# Altium integrated library Lattice ECP2m FPGA.IntLib: 168 symbols (part 1 of 2)
Pins are listed as number, name and electrical type; pins without a type are passive.

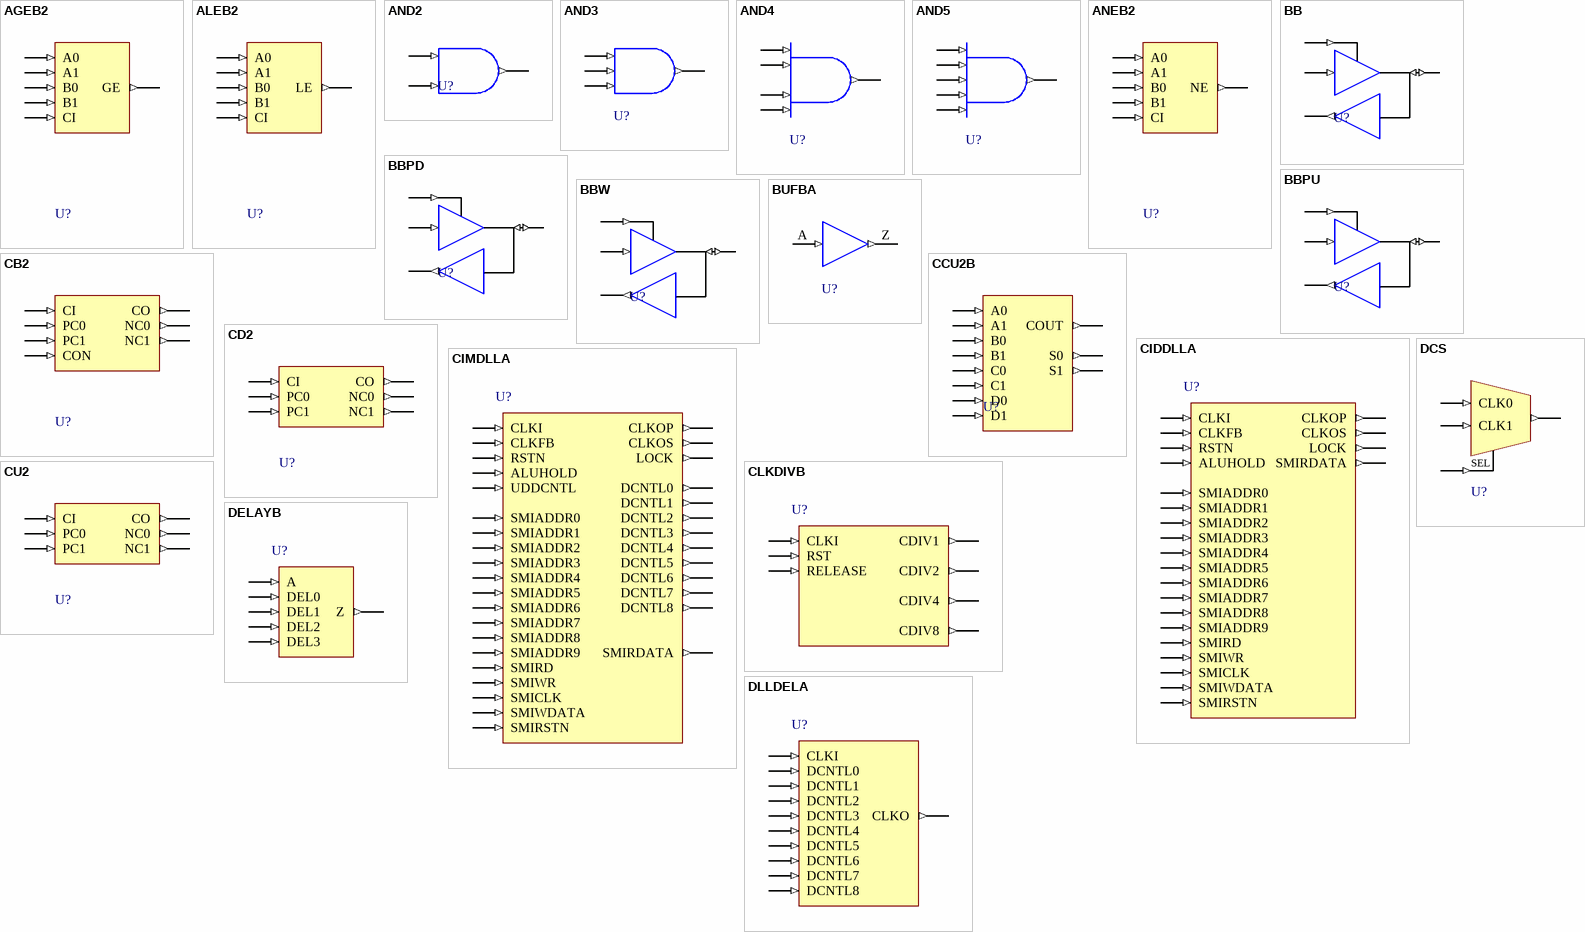
[diagram p0: symbols AGEB2 to DLLDELA]

## AGEB2
designator U?
"A" Greater Than Or Equal To "B" (2 Bit); FPGAVendor: Lattice; Published: 15-Jun-2005; Publisher: Altium Limited; HelpURL: http://www.latticesemi.com/lit/docs/manuals/library.pdf
pins: A0 (in), A1 (in), B0 (in), B1 (in), CI (in), GE (out)

## ALEB2
designator U?
"A” Less Than Or Equal To "B” (2 bit); FPGAVendor: Lattice; Published: 15-Jun-2005; Publisher: Altium Limited; HelpURL: http://www.latticesemi.com/lit/docs/manuals/library.pdf
pins: A0 (in), A1 (in), B0 (in), B1 (in), CI (in), LE (out)

## AND2
designator U?
2 Input AND Gate; FPGAVendor: Lattice; Published: 15-Jun-2005; Publisher: Altium Limited; HelpURL: http://www.latticesemi.com/lit/docs/manuals/library.pdf
pins: A (in), B (in), Z (out)

## AND3
designator U?
3 Input AND Gate; FPGAVendor: Lattice; Published: 15-Jun-2005; Publisher: Altium Limited; HelpURL: http://www.latticesemi.com/lit/docs/manuals/library.pdf
pins: A (in), B (in), C (in), Z (out)

## AND4
designator U?
4 Input AND Gate; FPGAVendor: Lattice; Published: 15-Jun-2005; Publisher: Altium Limited; HelpURL: http://www.latticesemi.com/lit/docs/manuals/library.pdf
pins: A (in), B (in), C (in), D (in), Z (out)

## AND5
designator U?
5 Input AND Gate; FPGAVendor: Lattice; Published: 15-Jun-2005; Publisher: Altium Limited; HelpURL: http://www.latticesemi.com/lit/docs/manuals/library.pdf
pins: A (in), B (in), C (in), D (in), E (in), Z (out)

## ANEB2
designator U?
"A” Not Equal To "B” (2 bit); FPGAVendor: Lattice; Published: 15-Jun-2005; Publisher: Altium Limited; HelpURL: http://www.latticesemi.com/lit/docs/manuals/library.pdf
pins: A0 (in), A1 (in), B0 (in), B1 (in), CI (in), NE (out)

## BB
designator U?
CMOS Input 6mA Sink 3mA Source Sinklim Output Buffer with Tristate – BiDirectional; FPGAVendor: Lattice; Published: 15-Jun-2005; Publisher: Altium Limited; HelpURL: http://www.latticesemi.com/lit/docs/manuals/library.pdf
pins: B (io), I (in), O (out), T (in)

## BBPD
designator U?
CMOS Input 6mA Sink 3mA Source Sinklim Output Buffer with Tristate and Pull-down – BiDirectional; FPGAVendor: Lattice; Published: 15-Jun-2005; Publisher: Altium Limited; HelpURL: http://www.latticesemi.com/lit/docs/manuals/library.pdf
pins: B (io), I (in), O (out), T (in)

## BBPU
designator U?
CMOS Input 6mA Sink 3mA Source Sinklim Output Buffer with Tristate and Pull-up – BiDirectional; FPGAVendor: Lattice; Published: 15-Jun-2005; Publisher: Altium Limited; HelpURL: http://www.latticesemi.com/lit/docs/manuals/library.pdf
pins: B (io), I (in), O (out), T (in)

## BBW
designator U?
CMOS Input 6mA Sink 3mA Source Sinklim Output Buffer with Tristate – BiDirectional in keepermode; FPGAVendor: Lattice; Published: 15-Jun-2005; Publisher: Altium Limited; HelpURL: http://www.latticesemi.com/lit/docs/manuals/library.pdf
pins: B (io), I (in), O (out), T (in)

## BUFBA
designator U?
Buffer; FPGAVendor: Lattice; Published: 14-Mar-2007; Publisher: Altium Limited
pins: A (in), Z (out)

## CB2
designator U?
LatticeXP based counter; Published: 15-Jun-2005; Publisher: Altium Limited; FPGAVendor: Lattice; HelpURL: http://www.latticesemi.com/lit/docs/manuals/library.pdf
pins: CI (in), CO (out), CON (in), NC0 (out), NC1 (out), PC0 (in), PC1 (in)

## CCU2B
designator U?
Description not found; FPGAVendor: Lattice; Published: 14-Mar-2007; Publisher: Altium Limited
pins: A0 (in), A1 (in), B0 (in), B1 (in), C0 (in), C1 (in), COUT (out), D0 (in), D1 (in), S0 (out), S1 (out)

## CD2
designator U?
Combinational Logic for 2 Bit Down Counter using Look-Up Table; FPGAVendor: Lattice; Published: 15-Jun-2005; Publisher: Altium Limited; HelpURL: http://www.latticesemi.com/lit/docs/manuals/library.pdf
pins: CI (in), CO (out), NC0 (out), NC1 (out), PC0 (in), PC1 (in)

## CIDDLLA
designator U?
Description not found; FPGAVendor: Lattice; Published: 14-Mar-2007; Publisher: Altium Limited
pins: ALUHOLD (in), CLKFB (in), CLKI (in), CLKOP (out), CLKOS (out), LOCK (out), RSTN (in), SMIADDR0 (in), SMIADDR1 (in), SMIADDR2 (in), SMIADDR3 (in), SMIADDR4 (in), SMIADDR5 (in), SMIADDR6 (in), SMIADDR7 (in), SMIADDR8 (in), SMIADDR9 (in), SMICLK (in), SMIRD (in), SMIRDATA (out), SMIRSTN (in), SMIWDATA (in), SMIWR (in)

## CIMDLLA
designator U?
Description not found; FPGAVendor: Lattice; Published: 14-Mar-2007; Publisher: Altium Limited
pins: ALUHOLD (in), CLKFB (in), CLKI (in), CLKOP (out), CLKOS (out), DCNTL0 (out), DCNTL1 (out), DCNTL2 (out), DCNTL3 (out), DCNTL4 (out), DCNTL5 (out), DCNTL6 (out), DCNTL7 (out), DCNTL8 (out), LOCK (out), RSTN (in), SMIADDR0 (in), SMIADDR1 (in), SMIADDR2 (in), SMIADDR3 (in), SMIADDR4 (in), SMIADDR5 (in), SMIADDR6 (in), SMIADDR7 (in), SMIADDR8 (in), SMIADDR9 (in), SMICLK (in), SMIRD (in), SMIRDATA (out), SMIRSTN (in), SMIWDATA (in), SMIWR (in), UDDCNTL (in)

## CLKDIVB
designator U?
Description not found; FPGAVendor: Lattice; Published: 14-Mar-2007; Publisher: Altium Limited
pins: CDIV1 (out), CDIV2 (out), CDIV4 (out), CDIV5 CDIV8 (out), CLKI (in), RELEASE (in), RST (in)

## CU2
designator U?
Combinational Logic for 2 Bit Up Counter using Look-Up Table; FPGAVendor: Lattice; Published: 15-Jun-2005; Publisher: Altium Limited; HelpURL: http://www.latticesemi.com/lit/docs/manuals/library.pdf
pins: CI (in), CO (out), NC0 (out), NC1 (out), PC0 (in), PC1 (in)

## DCS
designator U?
Dynamic Clock Selection Multiplexer; FPGAVendor: Lattice; Published: 15-Jun-2005; Publisher: Altium Limited; HelpURL: http://www.latticesemi.com/lit/docs/manuals/library.pdf
pins: CLK0 (in), CLK1 (in), DCSOUT (out), SEL (in)

## DELAYB
designator U?
Description not found; FPGAVendor: Lattice; Published: 14-Mar-2007; Publisher: Altium Limited
pins: A (in), DEL0 (in), DEL1 (in), DEL2 (in), DEL3 (in), Z (out)

## DLLDELA
designator U?
Description not found; FPGAVendor: Lattice; Published: 14-Mar-2007; Publisher: Altium Limited
pins: CLKI (in), CLKO (out), DCNTL0 (in), DCNTL1 (in), DCNTL2 (in), DCNTL3 (in), DCNTL4 (in), DCNTL5 (in), DCNTL6 (in), DCNTL7 (in), DCNTL8 (in)

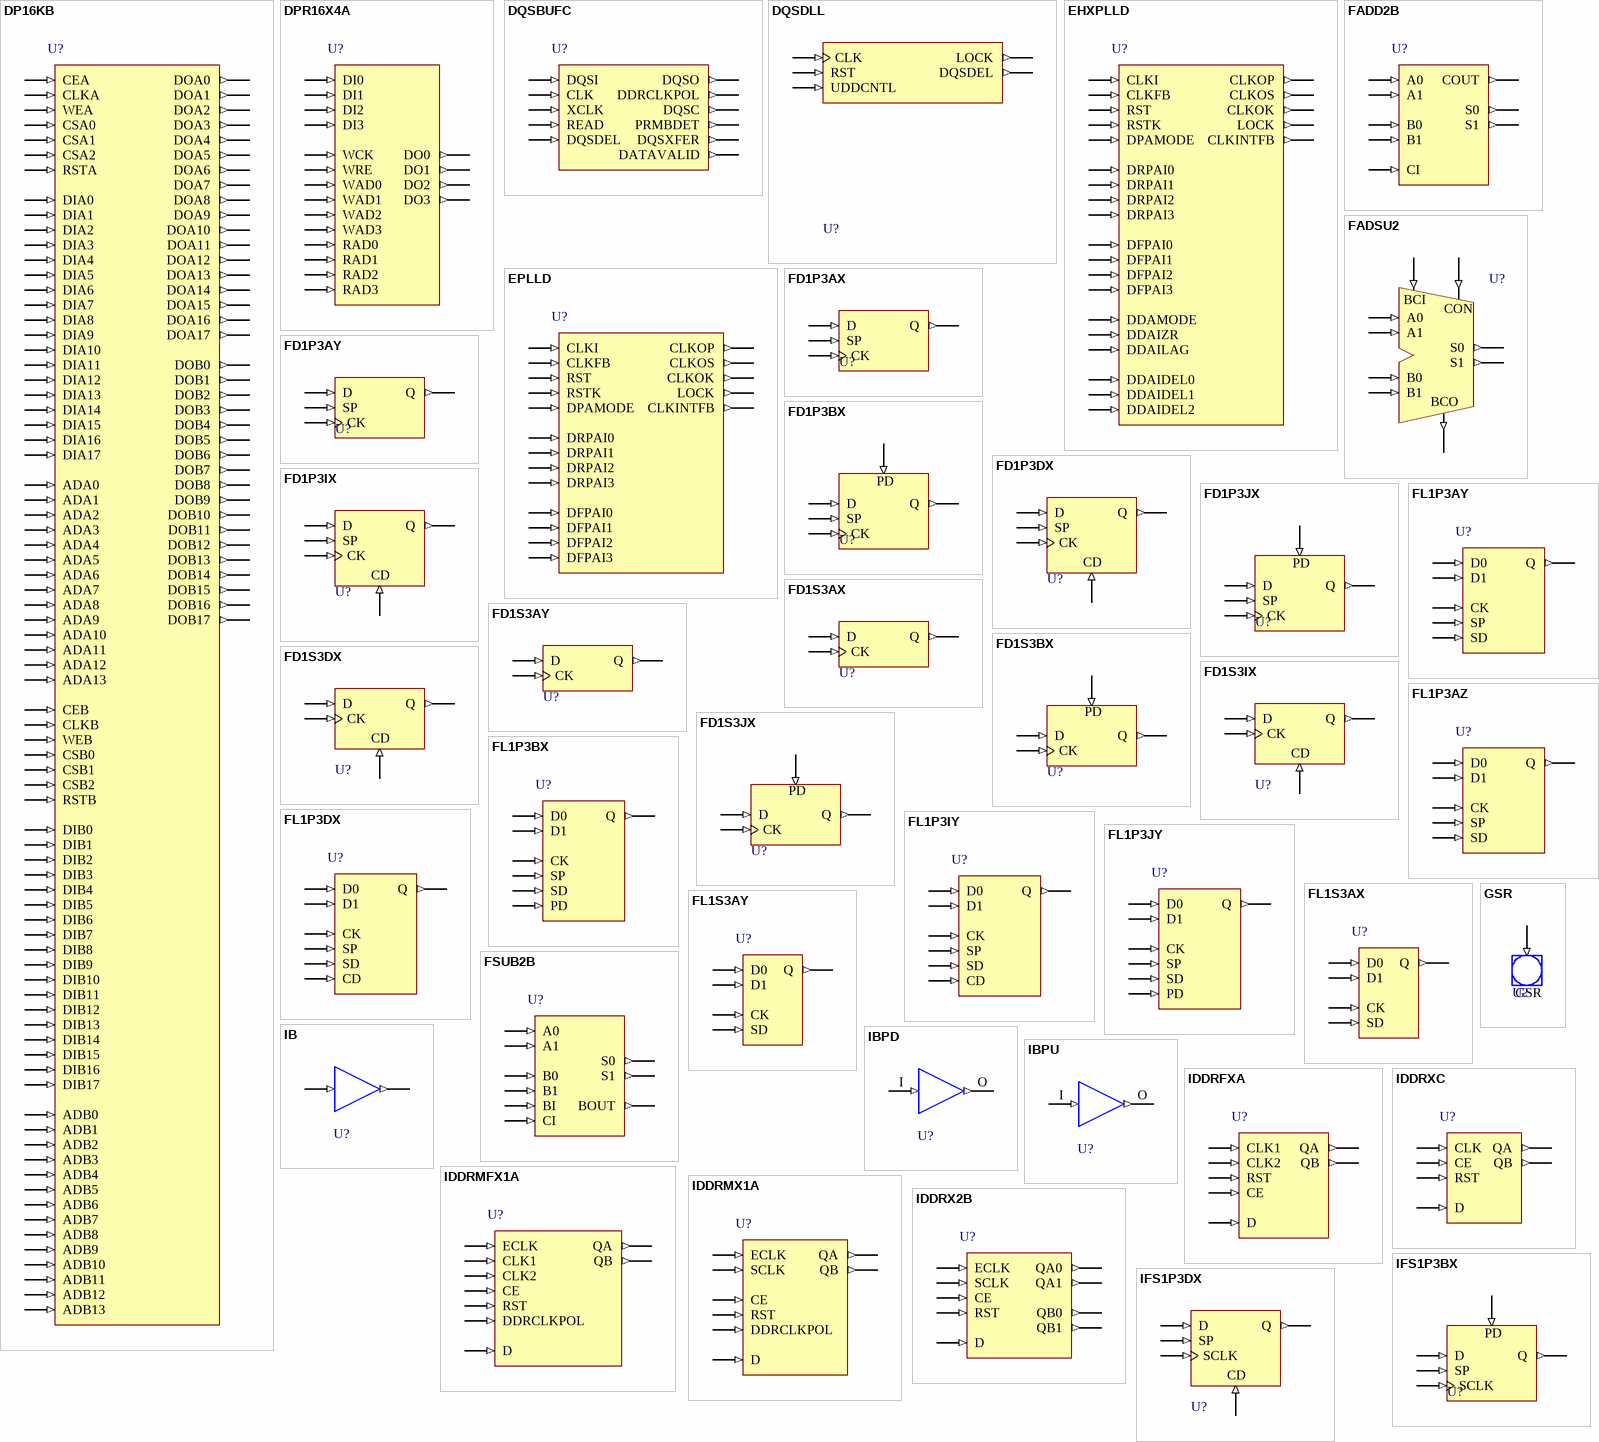
[diagram p1: symbols DP16KB to IFS1P3DX]

## DP16KB
designator U?
Description not found; FPGAVendor: Lattice; Published: 14-Mar-2007; Publisher: Altium Limited
pins: ADA0 (in), ADA1 (in), ADA2 (in), ADA3 (in), ADA4 (in), ADA5 (in), ADA6 (in), ADA7 (in), ADA8 (in), ADA9 (in), ADA10 (in), ADA11 (in), ADA12 (in), ADA13 (in), ADB0 (in), ADB1 (in), ADB2 (in), ADB3 (in), ADB4 (in), ADB5 (in), ADB6 (in), ADB7 (in), ADB8 (in), ADB9 (in), ADB10 (in), ADB11 (in), ADB12 (in), ADB13 (in), CEA (in), CEB (in), CLKA (in), CLKB (in), CSA0 (in), CSA1 (in), CSA2 (in), CSB0 (in), CSB1 (in), CSB2 (in), DIA0 (in), DIA1 (in), DIA2 (in), DIA3 (in), DIA4 (in), DIA5 (in), DIA6 (in), DIA7 (in), DIA8 (in), DIA9 (in), DIA10 (in), DIA11 (in), DIA12 (in), DIA13 (in), DIA14 (in), DIA15 (in), DIA16 (in), DIA17 (in), DIB0 (in), DIB1 (in), DIB2 (in), DIB3 (in), DIB4 (in), DIB5 (in), DIB6 (in), DIB7 (in), DIB8 (in), DIB9 (in), DIB10 (in), DIB11 (in), DIB12 (in), DIB13 (in), DIB14 (in), DIB15 (in), DIB16 (in), DIB17 (in), DOA0 (out), DOA1 (out), DOA2 (out), DOA3 (out), DOA4 (out), DOA5 (out), DOA6 (out), DOA7 (out), DOA8 (out), DOA9 (out), DOA10 (out), DOA11 (out), DOA12 (out), DOA13 (out), DOA14 (out), DOA15 (out), DOA16 (out), DOA17 (out), DOB0 (out), DOB1 (out), DOB2 (out), DOB3 (out), DOB4 (out), DOB5 (out), DOB6 (out), DOB7 (out), DOB8 (out), DOB9 (out), DOB10 (out), DOB11 (out), DOB12 (out), DOB13 (out), DOB14 (out), DOB15 (out), DOB16 (out), DOB17 (out), RSTA (in), RSTB (in), WEA (in), WEB (in)

## DPR16X4A
designator U?
Description not found; FPGAVendor: Lattice; Published: 14-Mar-2007; Publisher: Altium Limited
pins: DI0 (in), DI1 (in), DI2 (in), DI3 (in), DO0 (out), DO1 (out), DO2 (out), DO3 (out), RAD0 (in), RAD1 (in), RAD2 (in), RAD3 (in), WAD0 (in), WAD1 (in), WAD2 (in), WAD3 (in), WCK (in), WRE (in)

## DQSBUFC
designator U?
Description not found; FPGAVendor: Lattice; Published: 14-Mar-2007; Publisher: Altium Limited
pins: CLK (in), DATAVALID (out), DDRCLKPOL (out), DQSC (out), DQSDEL (in), DQSI (in), DQSO (out), DQSXFER (out), PRMBDET (out), READ (in), XCLK (in)

## DQSDLL
designator U?
DLL used as DDR memory DQS DLL; FPGAVendor: Lattice; Published: 15-Jun-2005; Publisher: Altium Limited; HelpURL: http://www.latticesemi.com/lit/docs/manuals/library.pdf
pins: CLK (in), DQSDEL (out), LOCK (out), RST (in), UDDCNTL (in)

## EHXPLLD
designator U?
Description not found; FPGAVendor: Lattice; Published: 14-Mar-2007; Publisher: Altium Limited
pins: CLKFB (in), CLKI (in), CLKINTFB (out), CLKOK (out), CLKOP (out), CLKOS (out), DDAIDEL0 (in), DDAIDEL1 (in), DDAIDEL2 (in), DDAILAG (in), DDAIZR (in), DDAMODE (in), DFPAI0 (in), DFPAI1 (in), DFPAI2 (in), DFPAI3 (in), DPAMODE (in), DRPAI0 (in), DRPAI1 (in), DRPAI2 (in), DRPAI3 (in), LOCK (out), RST (in), RSTK (in)

## EPLLD
designator U?
Description not found; FPGAVendor: Lattice; Published: 14-Mar-2007; Publisher: Altium Limited
pins: CLKFB (in), CLKI (in), CLKINTFB (out), CLKOK (out), CLKOP (out), CLKOS (out), DFPAI0 (in), DFPAI1 (in), DFPAI2 (in), DFPAI3 (in), DPAMODE (in), DRPAI0 (in), DRPAI1 (in), DRPAI2 (in), DRPAI3 (in), LOCK (out), RST (in), RSTK (in)

## FADD2B
designator U?
Description not found; FPGAVendor: Lattice; Published: 14-Mar-2007; Publisher: Altium Limited
pins: A0 (in), A1 (in), B0 (in), B1 (in), CI (in), COUT (out), S0 (out), S1 (out)

## FADSU2
designator U?
2 Bit Fast Adder/Subtracter (two’s complement); FPGAVendor: Lattice; Published: 15-Jun-2005; Publisher: Altium Limited; HelpURL: http://www.latticesemi.com/lit/docs/manuals/library.pdf
pins: A0 (in), A1 (in), B0 (in), B1 (in), BCI (in), BCO (out), CON (in), S0 (out), S1 (out)

## FD1P3AX
designator U?
Positive Edge Triggered D Flip-Flop with Positive Level Enable, GSR used for Clear; FPGAVendor: Lattice; Published: 15-Jun-2005; Publisher: Altium Limited; HelpURL: http://www.latticesemi.com/lit/docs/manuals/library.pdf
pins: CK (in), D (in), Q (out), SP (in)

## FD1P3AY
designator U?
Positive Edge Triggered D Flip-Flop with Positive Level Enable, GSR used for Preset; FPGAVendor: Lattice; Published: 15-Jun-2005; Publisher: Altium Limited; HelpURL: http://www.latticesemi.com/lit/docs/manuals/library.pdf
pins: CK (in), D (in), Q (out), SP (in)

## FD1P3BX
designator U?
Positive Edge Triggered D Flip-Flop with Positive Level Enable and Positive Level Asynchronous Preset; FPGAVendor: Lattice; Published: 15-Jun-2005; Publisher: Altium Limited; HelpURL: http://www.latticesemi.com/lit/docs/manuals/library.pdf
pins: CK (in), D (in), PD (in), Q (out), SP (in)

## FD1P3DX
designator U?
Positive Edge Triggered D Flip-Flop with Positive Level Enable and Positive Level Asynchronous Clear; FPGAVendor: Lattice; Published: 15-Jun-2005; Publisher: Altium Limited; HelpURL: http://www.latticesemi.com/lit/docs/manuals/library.pdf
pins: CD (in), CK (in), D (in), Q (out), SP (in)

## FD1P3IX
designator U?
Positive Edge Triggered D Flip-Flop with Positive Level Synchronous Clear and Positive Level Enable (Clear overrides Enable); FPGAVendor: Lattice; Published: 15-Jun-2005; Publisher: Altium Limited; HelpURL: http://www.latticesemi.com/lit/docs/manuals/library.pdf
pins: CD (in), CK (in), D (in), Q (out), SP (in)

## FD1P3JX
designator U?
Positive Edge Triggered D Flip-Flop with Positive Level Synchronous Preset and Positive Level Enable (Preset overrides Enable); FPGAVendor: Lattice; Published: 15-Jun-2005; Publisher: Altium Limited; HelpURL: http://www.latticesemi.com/lit/docs/manuals/library.pdf
pins: CK (in), D (in), PD (in), Q (out), SP (in)

## FD1S3AX
designator U?
Positive Edge Triggered D Flip-Flop, GSR Used for Clear; FPGAVendor: Lattice; Published: 15-Jun-2005; Publisher: Altium Limited; HelpURL: http://www.latticesemi.com/lit/docs/manuals/library.pdf
pins: CK (in), D (in), Q (out)

## FD1S3AY
designator U?
Positive Edge Triggered D Flip-Flop, GSR Used for Preset; FPGAVendor: Lattice; Published: 15-Jun-2005; Publisher: Altium Limited; HelpURL: http://www.latticesemi.com/lit/docs/manuals/library.pdf
pins: CK (in), D (in), Q (out)

## FD1S3BX
designator U?
Positive Edge Triggered D Flip-Flop with Positive Level Asynchronous Preset; FPGAVendor: Lattice; Published: 15-Jun-2005; Publisher: Altium Limited; HelpURL: http://www.latticesemi.com/lit/docs/manuals/library.pdf
pins: CK (in), D (in), PD (in), Q (out)

## FD1S3DX
designator U?
Positive Edge Triggered D Flip-Flop with Positive Level Asynchronous Clear; FPGAVendor: Lattice; Published: 15-Jun-2005; Publisher: Altium Limited; HelpURL: http://www.latticesemi.com/lit/docs/manuals/library.pdf
pins: CD (in), CK (in), D (in), Q (out)

## FD1S3IX
designator U?
Positive Edge Triggered D Flip-Flop with Positive Level Synchronous Clear; FPGAVendor: Lattice; Published: 15-Jun-2005; Publisher: Altium Limited; HelpURL: http://www.latticesemi.com/lit/docs/manuals/library.pdf
pins: CD (in), CK (in), D (in), Q (out)

## FD1S3JX
designator U?
Positive Edge Triggered D Flip-Flop with Positive Level Synchronous Preset; FPGAVendor: Lattice; Published: 15-Jun-2005; Publisher: Altium Limited; HelpURL: http://www.latticesemi.com/lit/docs/manuals/library.pdf
pins: CK (in), D (in), PD (in), Q (out)

## FL1P3AY
designator U?
Description not found; FPGAVendor: Lattice; Published: 14-Mar-2007; Publisher: Altium Limited
pins: CK (in), D0 (in), D1 (in), Q (out), SD (in), SP (in)

## FL1P3AZ
designator U?
Description not found; FPGAVendor: Lattice; Published: 14-Mar-2007; Publisher: Altium Limited
pins: CK (in), D0 (in), D1 (in), Q (out), SD (in), SP (in)

## FL1P3BX
designator U?
Description not found; FPGAVendor: Lattice; Published: 14-Mar-2007; Publisher: Altium Limited
pins: CK (in), D0 (in), D1 (in), PD (in), Q (out), SD (in), SP (in)

## FL1P3DX
designator U?
Description not found; FPGAVendor: Lattice; Published: 14-Mar-2007; Publisher: Altium Limited
pins: CD (in), CK (in), D0 (in), D1 (in), Q (out), SD (in), SP (in)

## FL1P3IY
designator U?
Description not found; FPGAVendor: Lattice; Published: 14-Mar-2007; Publisher: Altium Limited
pins: CD (in), CK (in), D0 (in), D1 (in), Q (out), SD (in), SP (in)

## FL1P3JY
designator U?
Description not found; FPGAVendor: Lattice; Published: 14-Mar-2007; Publisher: Altium Limited
pins: CK (in), D0 (in), D1 (in), PD (in), Q (out), SD (in), SP (in)

## FL1S3AX
designator U?
Description not found; FPGAVendor: Lattice; Published: 14-Mar-2007; Publisher: Altium Limited
pins: CK (in), D0 (in), D1 (in), Q (out), SD (in)

## FL1S3AY
designator U?
Description not found; FPGAVendor: Lattice; Published: 14-Mar-2007; Publisher: Altium Limited
pins: CK (in), D0 (in), D1 (in), Q (out), SD (in)

## FSUB2B
designator U?
Description not found; FPGAVendor: Lattice; Published: 14-Mar-2007; Publisher: Altium Limited
pins: A0 (in), A1 (in), B0 (in), B1 (in), BI (in), BOUT (out), CI (in), S0 (out), S1 (out)

## GSR
designator U?
Global Set/Reset; FPGAVendor: Lattice; Published: 15-Jun-2005; Publisher: Altium Limited; HelpURL: http://www.latticesemi.com/lit/docs/manuals/library.pdf
pins: GSR (in)

## IB
designator U?
CMOS Input Buffer; FPGAVendor: Lattice; Published: 15-Jun-2005; Publisher: Altium Limited; HelpURL: http://www.latticesemi.com/lit/docs/manuals/library.pdf
pins: I (in), O (out)

## IBPD
designator U?
Description not found; FPGAVendor: Lattice; Published: 14-Mar-2007; Publisher: Altium Limited
pins: I (in), O (out)

## IBPU
designator U?
Description not found; FPGAVendor: Lattice; Published: 14-Mar-2007; Publisher: Altium Limited
pins: I (in), O (out)

## IDDRFXA
designator U?
Description not found; FPGAVendor: Lattice; Published: 14-Mar-2007; Publisher: Altium Limited
pins: CE (in), CLK1 (in), CLK2 (in), D (in), QA (out), QB (out), RST (in)

## IDDRMFX1A
designator U?
Description not found; FPGAVendor: Lattice; Published: 14-Mar-2007; Publisher: Altium Limited
pins: CE (in), CLK1 (in), CLK2 (in), D (in), DDRCLKPOL (in), ECLK (in), QA (out), QB (out), RST (in)

## IDDRMX1A
designator U?
Description not found; FPGAVendor: Lattice; Published: 14-Mar-2007; Publisher: Altium Limited
pins: CE (in), D (in), DDRCLKPOL (in), ECLK (in), QA (out), QB (out), RST (in), SCLK (in)

## IDDRX2B
designator U?
Description not found; FPGAVendor: Lattice; Published: 14-Mar-2007; Publisher: Altium Limited
pins: CE (in), D (in), ECLK (in), QA0 (out), QA1 (out), QB0 (out), QB1 (out), RST (in), SCLK (in)

## IDDRXC
designator U?
Description not found; FPGAVendor: Lattice; Published: 14-Mar-2007; Publisher: Altium Limited
pins: CE (in), CLK (in), D (in), QA (out), QB (out), RST (in)

## IFS1P3BX
designator U?
Positive Edge Triggered D Flip-Flop with Positive Level Enable, Positive Level Asynchronous Preset, and System Clock (used in input PIC area only); FPGAVendor: Lattice; Published: 15-Jun-2005; Publisher: Altium Limited; HelpURL: http://www.latticesemi.com/lit/docs/manuals/library.pdf
pins: D (in), PD (in), Q (out), SCLK (in), SP (in)

## IFS1P3DX
designator U?
Positive Edge Triggered D Flip-Flop with Positive Level Enable, Positive Level Asynchronous Clear, and System Clock (used in input PIC area only); FPGAVendor: Lattice; Published: 15-Jun-2005; Publisher: Altium Limited; HelpURL: http://www.latticesemi.com/lit/docs/manuals/library.pdf
pins: CD (in), D (in), Q (out), SCLK (in), SP (in)

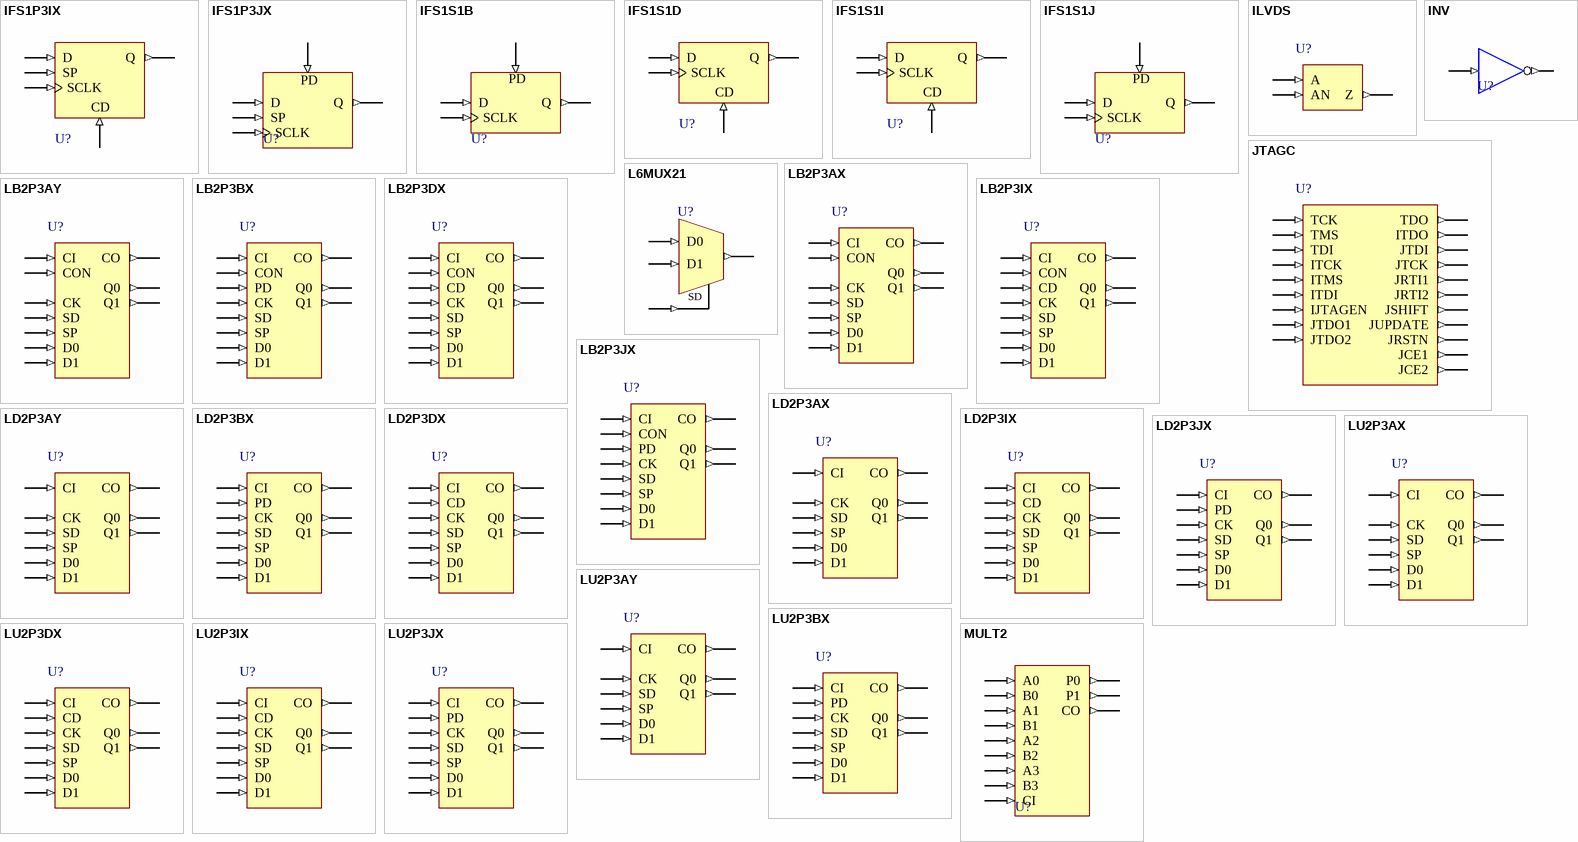
[diagram p2: symbols IFS1P3IX to MULT2]

## IFS1P3IX
designator U?
Positive Edge Triggered D Flip-Flop with Positive Level Synchronous Clear, Positive Level Enable, and System Clock (Clear overrides Enable) (used in input PIC area only); FPGAVendor: Lattice; Published: 15-Jun-2005; Publisher: Altium Limited; HelpURL: http://www.latticesemi.com/lit/docs/manuals/library.pdf
pins: CD (in), D (in), Q (out), SCLK (in), SP (in)

## IFS1P3JX
designator U?
Positive Edge Triggered D Flip-Flop with Positive Level Synchronous Preset, Positive Level Enable, and System Clock (Preset overrides Enable) (used in input PIC area only); FPGAVendor: Lattice; Published: 15-Jun-2005; Publisher: Altium Limited; HelpURL: http://www.latticesemi.com/lit/docs/manuals/library.pdf
pins: D (in), PD (in), Q (out), SCLK (in), SP (in)

## IFS1S1B
designator U?
Positive Level Data Latch with Positive Level Asynchronous Preset and System Clock (used in input PIC area only); FPGAVendor: Lattice; Published: 15-Jun-2005; Publisher: Altium Limited; HelpURL: http://www.latticesemi.com/lit/docs/manuals/library.pdf
pins: D (in), PD (in), Q (out), SCLK (in)

## IFS1S1D
designator U?
Positive Level Data Latch with Positive Level Asynchronous Clear and System Clock (used in input PIC area only); FPGAVendor: Lattice; Published: 15-Jun-2005; Publisher: Altium Limited; HelpURL: http://www.latticesemi.com/lit/docs/manuals/library.pdf
pins: CD (in), D (in), Q (out), SCLK (in)

## IFS1S1I
designator U?
Positive Level Data Latch with Positive Level Synchronous Clear and System Clock (used in input PIC area only); FPGAVendor: Lattice; Published: 15-Jun-2005; Publisher: Altium Limited; HelpURL: http://www.latticesemi.com/lit/docs/manuals/library.pdf
pins: CD (in), D (in), Q (out), SCLK (in)

## IFS1S1J
designator U?
Positive Level Data Latch with Positive Level Synchronous Preset and System Clock (used in input PIC area only); FPGAVendor: Lattice; Published: 15-Jun-2005; Publisher: Altium Limited; HelpURL: http://www.latticesemi.com/lit/docs/manuals/library.pdf
pins: D (in), PD (in), Q (out), SCLK (in)

## ILVDS
designator U?
Description not found; FPGAVendor: Lattice; Published: 14-Mar-2007; Publisher: Altium Limited
pins: A (in), AN (in), Z (out)

## INV
designator U?
Inverter; FPGAVendor: Lattice; Published: 15-Jun-2005; Publisher: Altium Limited; HelpURL: http://www.latticesemi.com/lit/docs/manuals/library.pdf
pins: A (in), Z (out)

## JTAGC
designator U?
Description not found; FPGAVendor: Lattice; Published: 14-Mar-2007; Publisher: Altium Limited
pins: IJTAGEN (in), ITCK (in), ITDI (in), ITDO (out), ITMS (in), JCE1 (out), JCE2 (out), JRSTN (out), JRTI1 (out), JRTI2 (out), JSHIFT (out), JTCK (out), JTDI (out), JTDO1 (in), JTDO2 (in), JUPDATE (out), TCK (in), TDI (in), TDO (out), TMS (in)

## L6MUX21
designator U?
2 to 1 Mux; FPGAVendor: Lattice; Published: 15-Jun-2005; Publisher: Altium Limited; HelpURL: http://www.latticesemi.com/lit/docs/manuals/library.pdf
pins: D0 (in), D1 (in), SD (in), Z (out)

## LB2P3AX
designator U?
Description not found; FPGAVendor: Lattice; Published: 14-Mar-2007; Publisher: Altium Limited
pins: CI (in), CK (in), CO (out), CON (in), D0 (in), D1 (in), Q0 (out), Q1 (out), SD (in), SP (in)

## LB2P3AY
designator U?
Description not found; FPGAVendor: Lattice; Published: 14-Mar-2007; Publisher: Altium Limited
pins: CI (in), CK (in), CO (out), CON (in), D0 (in), D1 (in), Q0 (out), Q1 (out), SD (in), SP (in)

## LB2P3BX
designator U?
Description not found; FPGAVendor: Lattice; Published: 14-Mar-2007; Publisher: Altium Limited
pins: CI (in), CK (in), CO (out), CON (in), D0 (in), D1 (in), PD (in), Q0 (out), Q1 (out), SD (in), SP (in)

## LB2P3DX
designator U?
Description not found; FPGAVendor: Lattice; Published: 14-Mar-2007; Publisher: Altium Limited
pins: CD (in), CI (in), CK (in), CO (out), CON (in), D0 (in), D1 (in), Q0 (out), Q1 (out), SD (in), SP (in)

## LB2P3IX
designator U?
Description not found; FPGAVendor: Lattice; Published: 14-Mar-2007; Publisher: Altium Limited
pins: CD (in), CI (in), CK (in), CO (out), CON (in), D0 (in), D1 (in), Q0 (out), Q1 (out), SD (in), SP (in)

## LB2P3JX
designator U?
Description not found; FPGAVendor: Lattice; Published: 14-Mar-2007; Publisher: Altium Limited
pins: CI (in), CK (in), CO (out), CON (in), D0 (in), D1 (in), PD (in), Q0 (out), Q1 (out), SD (in), SP (in)

## LD2P3AX
designator U?
Description not found; FPGAVendor: Lattice; Published: 14-Mar-2007; Publisher: Altium Limited
pins: CI (in), CK (in), CO (out), D0 (in), D1 (in), Q0 (out), Q1 (out), SD (in), SP (in)

## LD2P3AY
designator U?
Description not found; FPGAVendor: Lattice; Published: 14-Mar-2007; Publisher: Altium Limited
pins: CI (in), CK (in), CO (out), D0 (in), D1 (in), Q0 (out), Q1 (out), SD (in), SP (in)

## LD2P3BX
designator U?
Description not found; FPGAVendor: Lattice; Published: 14-Mar-2007; Publisher: Altium Limited
pins: CI (in), CK (in), CO (out), D0 (in), D1 (in), PD (in), Q0 (out), Q1 (out), SD (in), SP (in)

## LD2P3DX
designator U?
Description not found; FPGAVendor: Lattice; Published: 14-Mar-2007; Publisher: Altium Limited
pins: CD (in), CI (in), CK (in), CO (out), D0 (in), D1 (in), Q0 (out), Q1 (out), SD (in), SP (in)

## LD2P3IX
designator U?
Description not found; FPGAVendor: Lattice; Published: 14-Mar-2007; Publisher: Altium Limited
pins: CD (in), CI (in), CK (in), CO (out), D0 (in), D1 (in), Q0 (out), Q1 (out), SD (in), SP (in)

## LD2P3JX
designator U?
Description not found; FPGAVendor: Lattice; Published: 14-Mar-2007; Publisher: Altium Limited
pins: CI (in), CK (in), CO (out), D0 (in), D1 (in), PD (in), Q0 (out), Q1 (out), SD (in), SP (in)

## LU2P3AX
designator U?
Description not found; FPGAVendor: Lattice; Published: 14-Mar-2007; Publisher: Altium Limited
pins: CI (in), CK (in), CO (out), D0 (in), D1 (in), Q0 (out), Q1 (out), SD (in), SP (in)

## LU2P3AY
designator U?
Description not found; FPGAVendor: Lattice; Published: 14-Mar-2007; Publisher: Altium Limited
pins: CI (in), CK (in), CO (out), D0 (in), D1 (in), Q0 (out), Q1 (out), SD (in), SP (in)

## LU2P3BX
designator U?
Description not found; FPGAVendor: Lattice; Published: 14-Mar-2007; Publisher: Altium Limited
pins: CI (in), CK (in), CO (out), D0 (in), D1 (in), PD (in), Q0 (out), Q1 (out), SD (in), SP (in)

## LU2P3DX
designator U?
Description not found; FPGAVendor: Lattice; Published: 14-Mar-2007; Publisher: Altium Limited
pins: CD (in), CI (in), CK (in), CO (out), D0 (in), D1 (in), Q0 (out), Q1 (out), SD (in), SP (in)

## LU2P3IX
designator U?
Description not found; FPGAVendor: Lattice; Published: 14-Mar-2007; Publisher: Altium Limited
pins: CD (in), CI (in), CK (in), CO (out), D0 (in), D1 (in), Q0 (out), Q1 (out), SD (in), SP (in)

## LU2P3JX
designator U?
Description not found; FPGAVendor: Lattice; Published: 14-Mar-2007; Publisher: Altium Limited
pins: CI (in), CK (in), CO (out), D0 (in), D1 (in), PD (in), Q0 (out), Q1 (out), SD (in), SP (in)

## MULT2
designator U?
DSP Multiplier; FPGAVendor: Lattice; Published: 15-Jun-2005; Publisher: Altium Limited; HelpURL: http://www.latticesemi.com/lit/docs/manuals/library.pdf
pins: A0 (in), A1 (in), A2 (in), A3 (in), B0 (in), B1 (in), B2 (in), B3 (in), CI (in), CO (out), P0 (out), P1 (out)

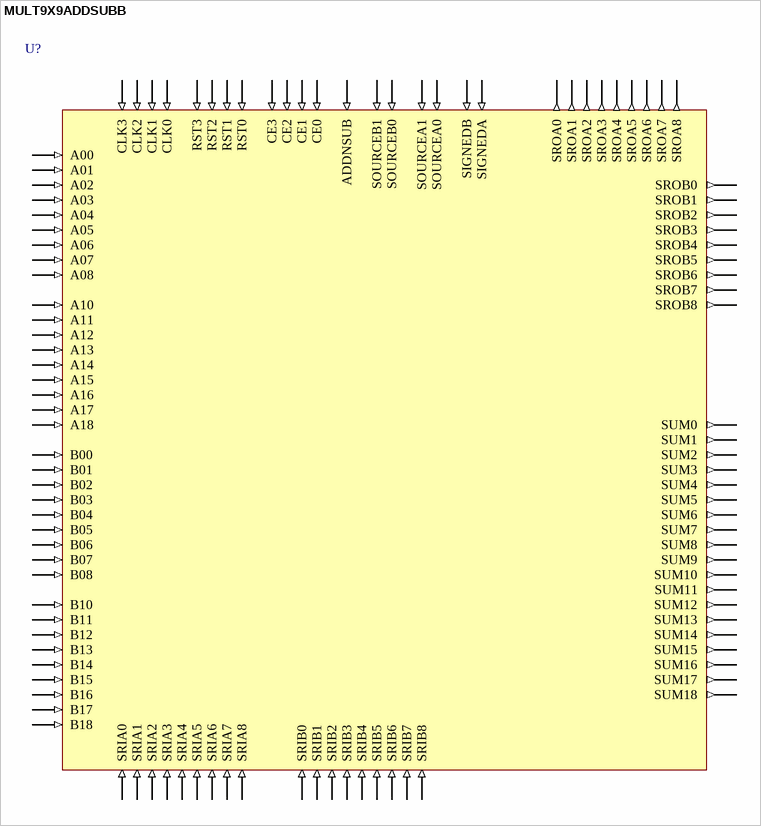
[diagram p3: symbol MULT9X9ADDSUBB]

## MULT9X9ADDSUBB
designator U?
Description not found; FPGAVendor: Lattice; Published: 14-Mar-2007; Publisher: Altium Limited
pins: A00 (in), A01 (in), A02 (in), A03 (in), A04 (in), A05 (in), A06 (in), A07 (in), A08 (in), A10 (in), A11 (in), A12 (in), A13 (in), A14 (in), A15 (in), A16 (in), A17 (in), A18 (in), ADDNSUB (in), B00 (in), B01 (in), B02 (in), B03 (in), B04 (in), B05 (in), B06 (in), B07 (in), B08 (in), B10 (in), B11 (in), B12 (in), B13 (in), B14 (in), B15 (in), B16 (in), B17 (in), B18 (in), CE0 (in), CE1 (in), CE2 (in), CE3 (in), CLK0 (in), CLK1 (in), CLK2 (in), CLK3 (in), RST0 (in), RST1 (in), RST2 (in), RST3 (in), SIGNEDA (in), SIGNEDB (in), SOURCEA0 (in), SOURCEA1 (in), SOURCEB0 (in), SOURCEB1 (in), SRIA0 (in), SRIA1 (in), SRIA2 (in), SRIA3 (in), SRIA4 (in), SRIA5 (in), SRIA6 (in), SRIA7 (in), SRIA8 (in), SRIB0 (in), SRIB1 (in), SRIB2 (in), SRIB3 (in), SRIB4 (in), SRIB5 (in), SRIB6 (in), SRIB7 (in), SRIB8 (in), SROA0 (out), SROA1 (out), SROA2 (out), SROA3 (out), SROA4 (out), SROA5 (out), SROA6 (out), SROA7 (out), SROA8 (out), SROB0 (out), SROB1 (out), SROB2 (out), SROB3 (out), SROB4 (out), SROB5 (out), SROB6 (out), SROB7 (out), SROB8 (out), SUM0 (out), SUM1 (out), SUM2 (out), SUM3 (out), SUM4 (out), SUM5 (out), SUM6 (out), SUM7 (out), SUM8 (out), SUM9 (out), SUM10 (out), SUM11 (out), SUM12 (out), SUM13 (out), SUM14 (out), SUM15 (out), SUM16 (out), SUM17 (out), SUM18 (out)

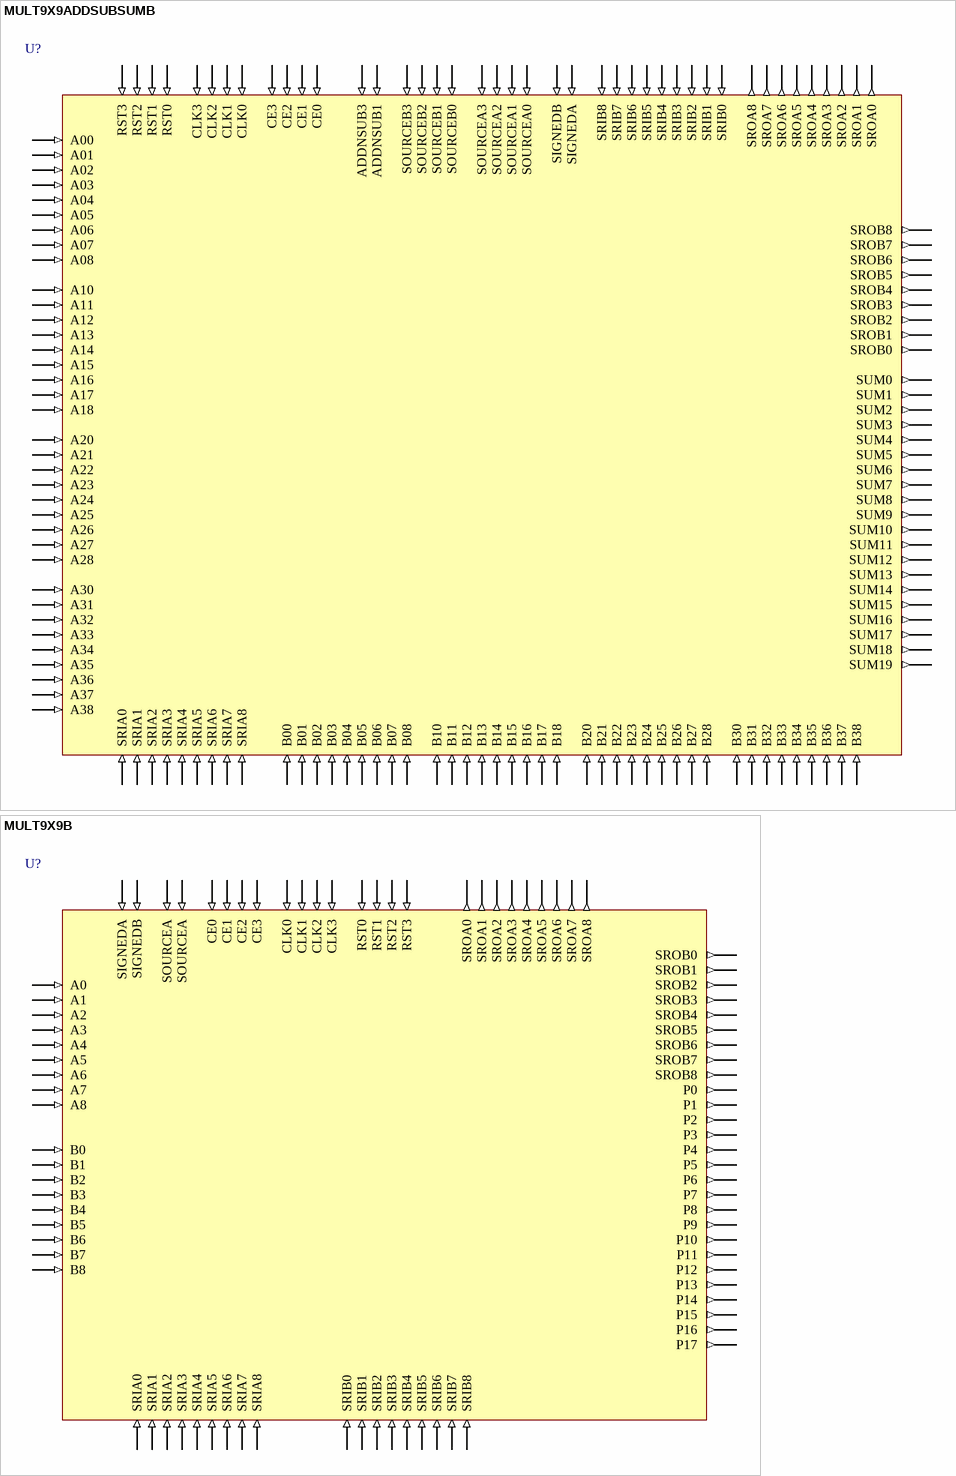
[diagram p4: symbols MULT9X9ADDSUBSUMB to MULT9X9B]

## MULT9X9ADDSUBSUMB
designator U?
Description not found; FPGAVendor: Lattice; Published: 14-Mar-2007; Publisher: Altium Limited
pins: A00 (in), A01 (in), A02 (in), A03 (in), A04 (in), A05 (in), A06 (in), A07 (in), A08 (in), A10 (in), A11 (in), A12 (in), A13 (in), A14 (in), A15 (in), A16 (in), A17 (in), A18 (in), A20 (in), A21 (in), A22 (in), A23 (in), A24 (in), A25 (in), A26 (in), A27 (in), A28 (in), A30 (in), A31 (in), A32 (in), A33 (in), A34 (in), A35 (in), A36 (in), A37 (in), A38 (in), ADDNSUB1 (in), ADDNSUB3 (in), B00 (in), B01 (in), B02 (in), B03 (in), B04 (in), B05 (in), B06 (in), B07 (in), B08 (in), B10 (in), B11 (in), B12 (in), B13 (in), B14 (in), B15 (in), B16 (in), B17 (in), B18 (in), B20 (in), B21 (in), B22 (in), B23 (in), B24 (in), B25 (in), B26 (in), B27 (in), B28 (in), B30 (in), B31 (in), B32 (in), B33 (in), B34 (in), B35 (in), B36 (in), B37 (in), B38 (in), CE0 (in), CE1 (in), CE2 (in), CE3 (in), CLK0 (in), CLK1 (in), CLK2 (in), CLK3 (in), RST0 (in), RST1 (in), RST2 (in), RST3 (in), SIGNEDA (in), SIGNEDB (in), SOURCEA0 (in), SOURCEA1 (in), SOURCEA2 (in), SOURCEA3 (in), SOURCEB0 (in), SOURCEB1 (in), SOURCEB2 (in), SOURCEB3 (in), SRIA0 (in), SRIA1 (in), SRIA2 (in), SRIA3 (in), SRIA4 (in), SRIA5 (in), SRIA6 (in), SRIA7 (in), SRIA8 (in), SRIB0 (in), SRIB1 (in), SRIB2 (in), SRIB3 (in), SRIB4 (in), SRIB5 (in), SRIB6 (in), SRIB7 (in), SRIB8 (in), SROA0 (out), SROA1 (out), SROA2 (out), SROA3 (out), SROA4 (out), SROA5 (out), SROA6 (out), SROA7 (out), SROA8 (out), SROB0 (out), SROB1 (out), SROB2 (out), SROB3 (out), SROB4 (out), SROB5 (out), SROB6 (out), SROB7 (out), SROB8 (out), SUM0 (out), SUM1 (out), SUM2 (out), SUM3 (out), SUM4 (out), SUM5 (out), SUM6 (out), SUM7 (out), SUM8 (out), SUM9 (out), SUM10 (out), SUM11 (out), SUM12 (out), SUM13 (out), SUM14 (out), SUM15 (out), SUM16 (out), SUM17 (out), SUM18 (out), SUM19 (out)

## MULT9X9B
designator U?
Description not found; FPGAVendor: Lattice; Published: 14-Mar-2007; Publisher: Altium Limited
pins: A0 (in), A1 (in), A2 (in), A3 (in), A4 (in), A5 (in), A6 (in), A7 (in), A8 (in), B0 (in), B1 (in), B2 (in), B3 (in), B4 (in), B5 (in), B6 (in), B7 (in), B8 (in), CE0 (in), CE1 (in), CE2 (in), CE3 (in), CLK0 (in), CLK1 (in), CLK2 (in), CLK3 (in), P0 (out), P1 (out), P2 (out), P3 (out), P4 (out), P5 (out), P6 (out), P7 (out), P8 (out), P9 (out), P10 (out), P11 (out), P12 (out), P13 (out), P14 (out), P15 (out), P16 (out), P17 (out), RST0 (in), RST1 (in), RST2 (in), RST3 (in), SIGNEDA (in), SIGNEDB (in), SOURCEA (in), SOURCEA (in), SRIA0 (in), SRIA1 (in), SRIA2 (in), SRIA3 (in), SRIA4 (in), SRIA5 (in), SRIA6 (in), SRIA7 (in), SRIA8 (in), SRIB0 (in), SRIB1 (in), SRIB2 (in), SRIB3 (in), SRIB4 (in), SRIB5 (in), SRIB6 (in), SRIB7 (in), SRIB8 (in), SROA0 (out), SROA1 (out), SROA2 (out), SROA3 (out), SROA4 (out), SROA5 (out), SROA6 (out), SROA7 (out), SROA8 (out), SROB0 (out), SROB1 (out), SROB2 (out), SROB3 (out), SROB4 (out), SROB5 (out), SROB6 (out), SROB7 (out), SROB8 (out)

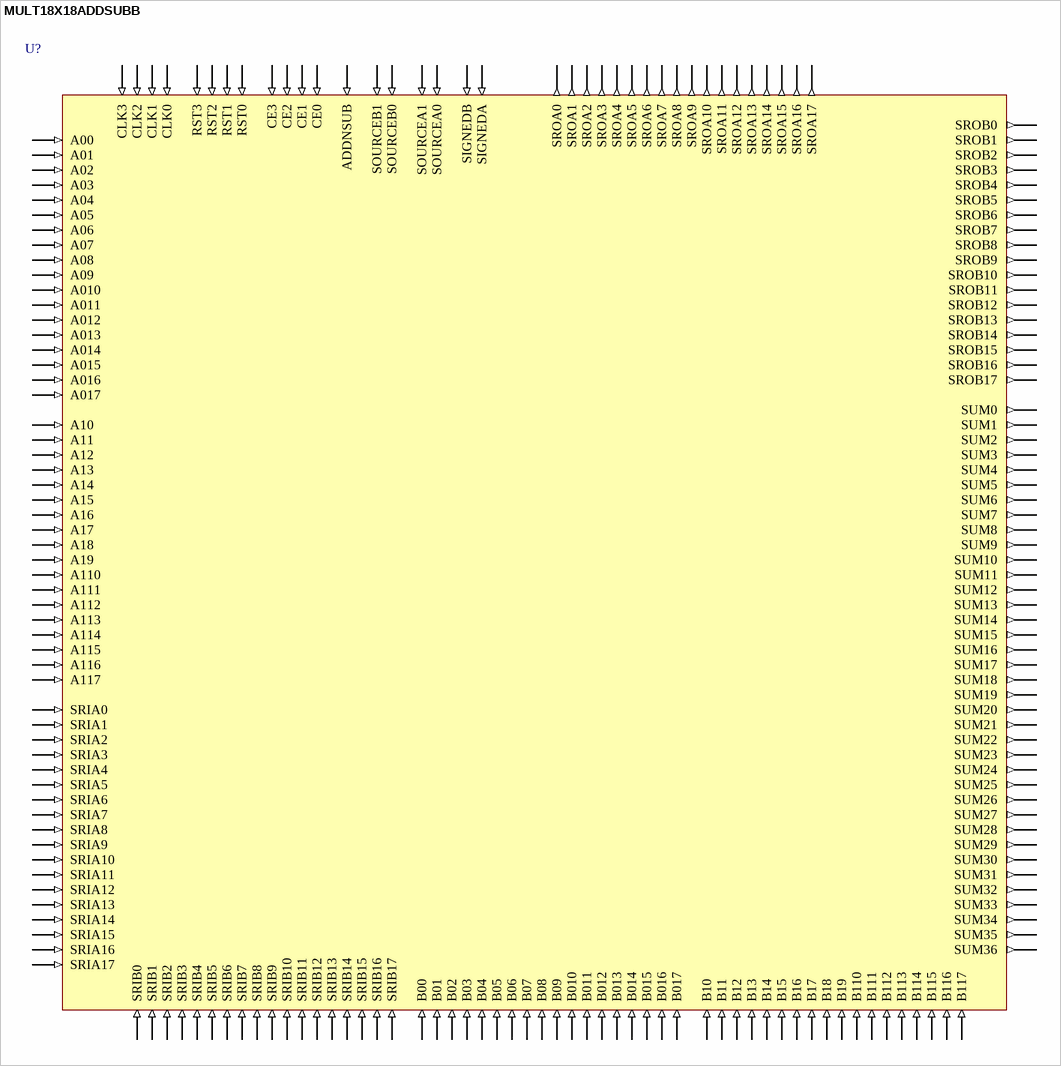
[diagram p5: symbol MULT18X18ADDSUBB]

## MULT18X18ADDSUBB
designator U?
Description not found; FPGAVendor: Lattice; Published: 14-Mar-2007; Publisher: Altium Limited
pins: A00 (in), A01 (in), A02 (in), A03 (in), A04 (in), A05 (in), A06 (in), A07 (in), A08 (in), A09 (in), A10 (in), A010 (in), A11 (in), A011 (in), A12 (in), A012 (in), A13 (in), A013 (in), A14 (in), A014 (in), A15 (in), A015 (in), A16 (in), A016 (in), A17 (in), A017 (in), A18 (in), A19 (in), A110 (in), A111 (in), A112 (in), A113 (in), A114 (in), A115 (in), A116 (in), A117 (in), ADDNSUB (in), B00 (in), B01 (in), B02 (in), B03 (in), B04 (in), B05 (in), B06 (in), B07 (in), B08 (in), B09 (in), B10 (in), B010 (in), B11 (in), B011 (in), B12 (in), B012 (in), B13 (in), B013 (in), B14 (in), B014 (in), B15 (in), B015 (in), B16 (in), B016 (in), B17 (in), B017 (in), B18 (in), B19 (in), B110 (in), B111 (in), B112 (in), B113 (in), B114 (in), B115 (in), B116 (in), B117 (in), CE0 (in), CE1 (in), CE2 (in), CE3 (in), CLK0 (in), CLK1 (in), CLK2 (in), CLK3 (in), RST0 (in), RST1 (in), RST2 (in), RST3 (in), SIGNEDA (in), SIGNEDB (in), SOURCEA0 (in), SOURCEA1 (in), SOURCEB0 (in), SOURCEB1 (in), SRIA0 (in), SRIA1 (in), SRIA2 (in), SRIA3 (in), SRIA4 (in), SRIA5 (in), SRIA6 (in), SRIA7 (in), SRIA8 (in), SRIA9 (in), SRIA10 (in), SRIA11 (in), SRIA12 (in), SRIA13 (in), SRIA14 (in), SRIA15 (in), SRIA16 (in), SRIA17 (in), SRIB0 (in), SRIB1 (in), SRIB2 (in), SRIB3 (in), SRIB4 (in), SRIB5 (in), SRIB6 (in), SRIB7 (in), SRIB8 (in), SRIB9 (in), SRIB10 (in), SRIB11 (in), SRIB12 (in), SRIB13 (in), SRIB14 (in), SRIB15 (in), SRIB16 (in), SRIB17 (in), SROA0 (out), SROA1 (out), SROA2 (out), SROA3 (out), SROA4 (out), SROA5 (out), SROA6 (out), SROA7 (out), SROA8 (out), SROA9 (out), SROA10 (out), SROA11 (out), SROA12 (out), SROA13 (out), SROA14 (out), SROA15 (out), SROA16 (out), SROA17 (out), SROB0 (out), SROB1 (out), SROB2 (out), SROB3 (out), SROB4 (out), SROB5 (out), SROB6 (out), SROB7 (out), SROB8 (out), SROB9 (out), SROB10 (out), SROB11 (out), SROB12 (out), SROB13 (out), SROB14 (out), SROB15 (out), SROB16 (out), SROB17 (out), SUM0 (out), SUM1 (out), SUM2 (out), SUM3 (out), SUM4 (out), SUM5 (out), SUM6 (out), SUM7 (out), SUM8 (out), SUM9 (out), SUM10 (out), SUM11 (out), SUM12 (out), SUM13 (out), SUM14 (out), SUM15 (out), SUM16 (out), SUM17 (out), SUM18 (out), SUM19 (out), SUM20 (out), SUM21 (out), SUM22 (out), SUM23 (out), SUM24 (out), SUM25 (out), SUM26 (out), SUM27 (out), SUM28 (out), SUM29 (out), SUM30 (out), SUM31 (out), SUM32 (out), SUM33 (out), SUM34 (out), SUM35 (out), SUM36 (out)

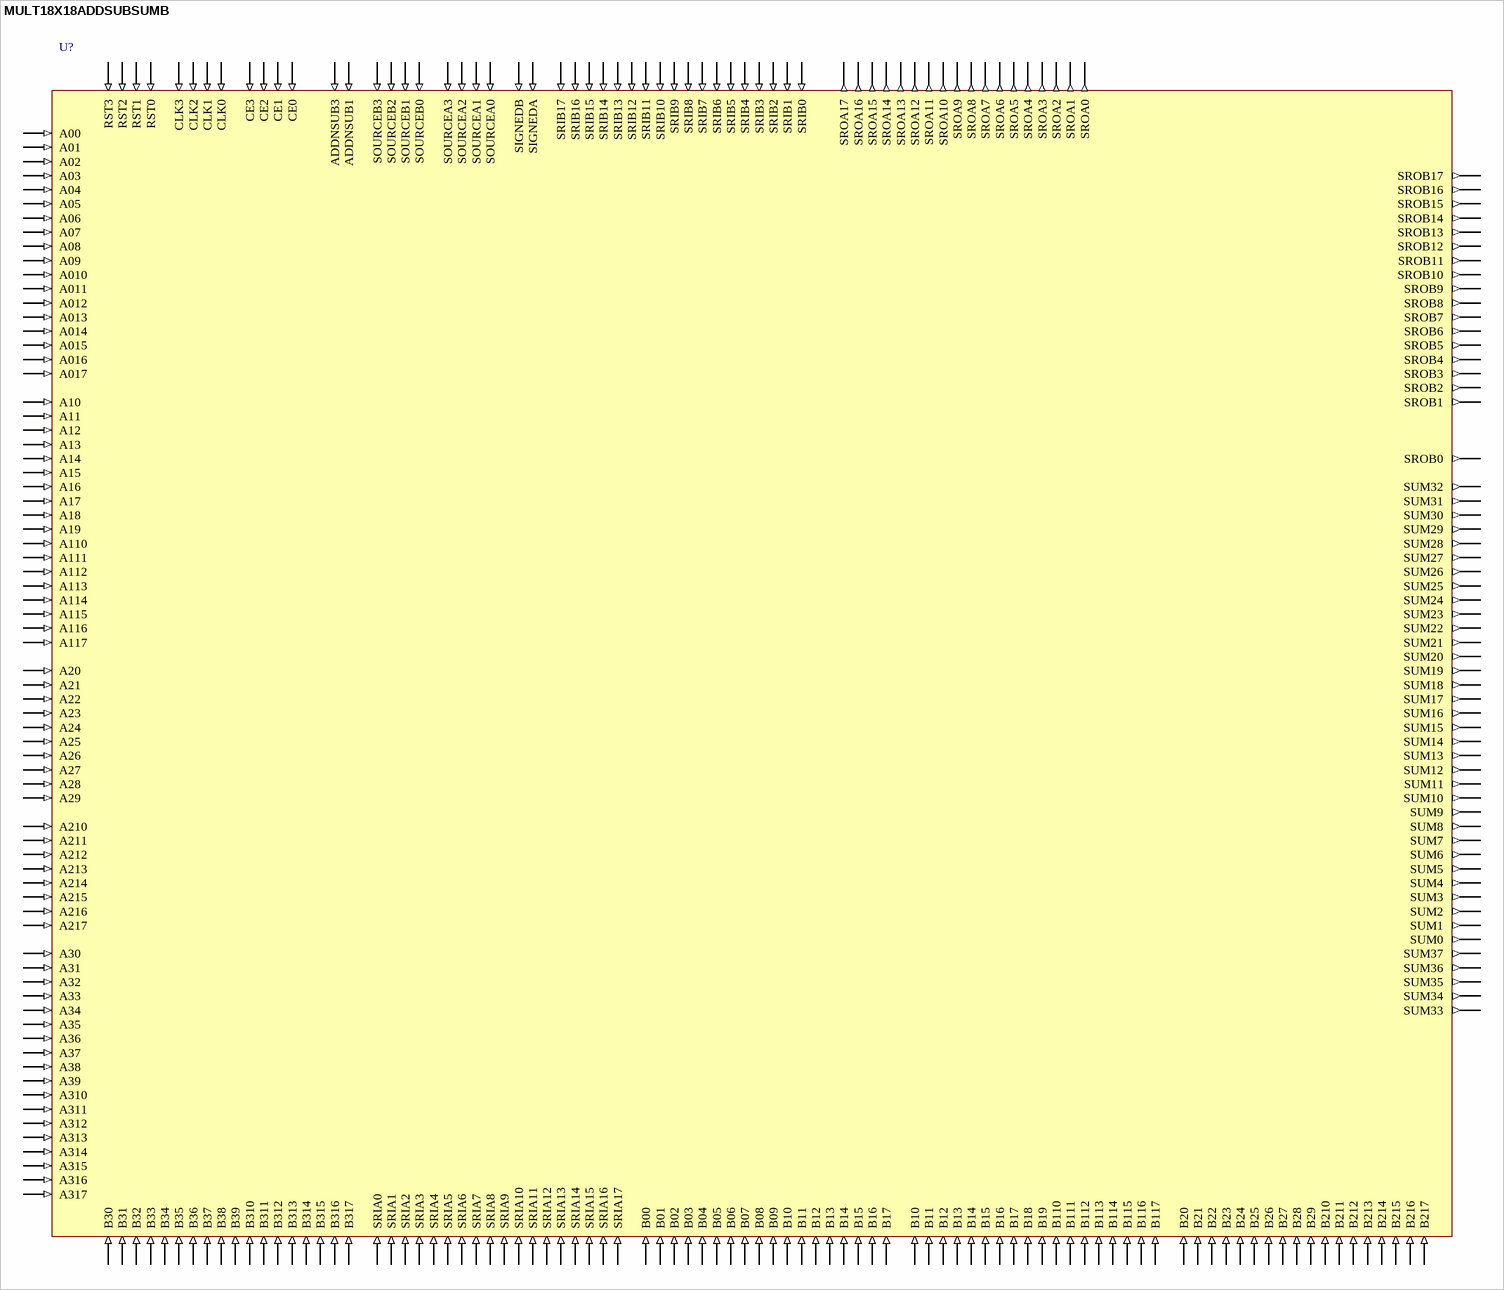
[diagram p6: symbol MULT18X18ADDSUBSUMB]

## MULT18X18ADDSUBSUMB
designator U?
Description not found; FPGAVendor: Lattice; Published: 14-Mar-2007; Publisher: Altium Limited
pins: A00 (in), A01 (in), A02 (in), A03 (in), A04 (in), A05 (in), A06 (in), A07 (in), A08 (in), A09 (in), A010 (in), A10 (in), A011 (in), A11 (in), A012 (in), A12 (in), A013 (in), A13 (in), A014 (in), A14 (in), A015 (in), A15 (in), A016 (in), A16 (in), A017 (in), A17 (in), A18 (in), A19 (in), A20 (in), A21 (in), A22 (in), A23 (in), A24 (in), A25 (in), A26 (in), A27 (in), A28 (in), A29 (in), A30 (in), A31 (in), A32 (in), A33 (in), A34 (in), A35 (in), A36 (in), A37 (in), A38 (in), A39 (in), A110 (in), A111 (in), A112 (in), A113 (in), A114 (in), A115 (in), A116 (in), A117 (in), A210 (in), A211 (in), A212 (in), A213 (in), A214 (in), A215 (in), A216 (in), A217 (in), A310 (in), A311 (in), A312 (in), A313 (in), A314 (in), A315 (in), A316 (in), A317 (in), ADDNSUB1 (in), ADDNSUB3 (in), B00 (in), B01 (in), B02 (in), B03 (in), B04 (in), B05 (in), B06 (in), B07 (in), B08 (in), B09 (in), B10 (in), B10 (in), B11 (in), B11 (in), B12 (in), B12 (in), B13 (in), B13 (in), B14 (in), B14 (in), B15 (in), B15 (in), B16 (in), B16 (in), B17 (in), B17 (in), B18 (in), B19 (in), B20 (in), B21 (in), B22 (in), B23 (in), B24 (in), B25 (in), B26 (in), B27 (in), B28 (in), B29 (in), B30 (in), B31 (in), B32 (in), B33 (in), B34 (in), B35 (in), B36 (in), B37 (in), B38 (in), B39 (in), B110 (in), B111 (in), B112 (in), B113 (in), B114 (in), B115 (in), B116 (in), B117 (in), B210 (in), B211 (in), B212 (in), B213 (in), B214 (in), B215 (in), B216 (in), B217 (in), B310 (in), B311 (in), B312 (in), B313 (in), B314 (in), B315 (in), B316 (in), B317 (in), CE0 (in), CE1 (in), CE2 (in), CE3 (in), CLK0 (in), CLK1 (in), CLK2 (in), CLK3 (in), RST0 (in), RST1 (in), RST2 (in), RST3 (in), SIGNEDA (in), SIGNEDB (in), SOURCEA0 (in), SOURCEA1 (in), SOURCEA2 (in), SOURCEA3 (in), SOURCEB0 (in), SOURCEB1 (in), SOURCEB2 (in), SOURCEB3 (in), SRIA0 (in), SRIA1 (in), SRIA2 (in), SRIA3 (in), SRIA4 (in), SRIA5 (in), SRIA6 (in), SRIA7 (in), SRIA8 (in), SRIA9 (in), SRIA10 (in), SRIA11 (in), SRIA12 (in), SRIA13 (in), SRIA14 (in), SRIA15 (in), SRIA16 (in), SRIA17 (in), SRIB0 (in), SRIB1 (in), SRIB2 (in), SRIB3 (in), SRIB4 (in), SRIB5 (in), SRIB6 (in), SRIB7 (in), SRIB8 (in), SRIB9 (in), SRIB10 (in), SRIB11 (in), SRIB12 (in), SRIB13 (in), SRIB14 (in), SRIB15 (in), SRIB16 (in), SRIB17 (in), SROA0 (out), SROA1 (out), SROA2 (out), SROA3 (out), SROA4 (out), SROA5 (out), SROA6 (out), SROA7 (out), SROA8 (out), SROA9 (out), SROA10 (out), SROA11 (out), SROA12 (out), SROA13 (out), SROA14 (out), SROA15 (out), SROA16 (out), SROA17 (out), SROB0 (out), SROB1 (out), SROB2 (out), SROB3 (out), SROB4 (out), SROB5 (out), SROB6 (out), SROB7 (out), SROB8 (out), SROB9 (out), SROB10 (out), SROB11 (out), SROB12 (out), SROB13 (out), SROB14 (out), SROB15 (out), SROB16 (out), SROB17 (out), SUM0 (out), SUM1 (out), SUM2 (out), SUM3 (out), SUM4 (out), SUM5 (out), SUM6 (out), SUM7 (out), SUM8 (out), SUM9 (out), SUM10 (out), SUM11 (out), SUM12 (out), SUM13 (out), SUM14 (out), SUM15 (out), SUM16 (out), SUM17 (out), SUM18 (out), SUM19 (out), SUM20 (out), SUM21 (out), SUM22 (out), SUM23 (out), SUM24 (out), SUM25 (out), SUM26 (out), SUM27 (out), SUM28 (out), SUM29 (out), SUM30 (out), SUM31 (out), SUM32 (out), SUM33 (out), SUM34 (out), SUM35 (out), SUM36 (out), SUM37 (out)

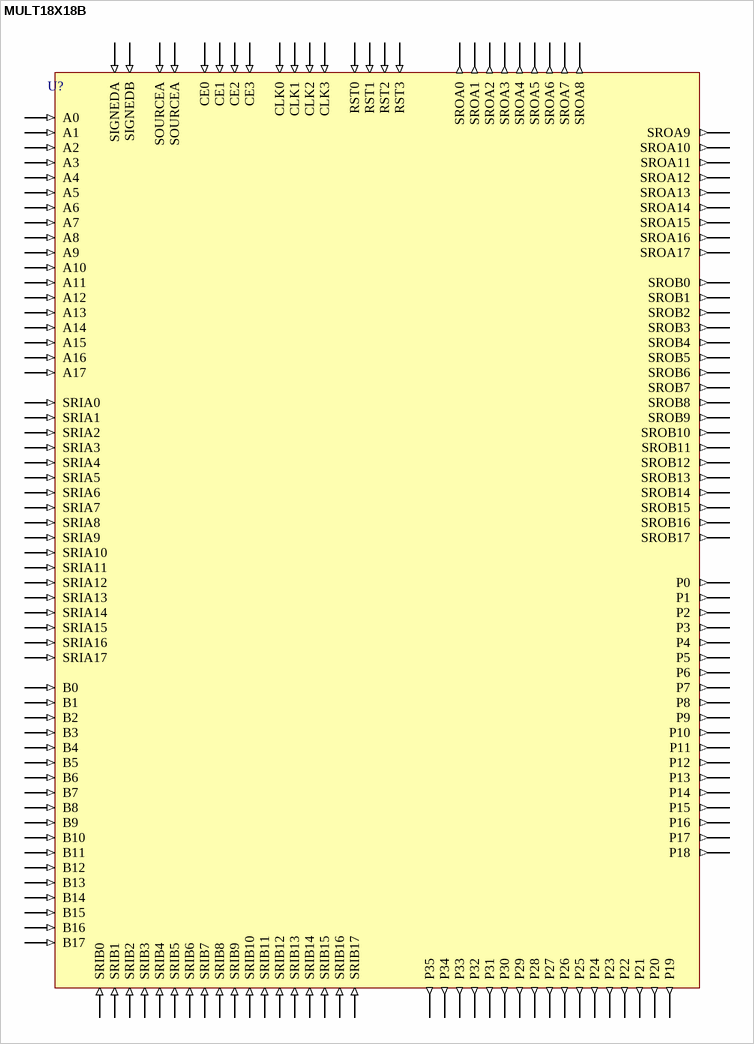
[diagram p7: symbol MULT18X18B]

## MULT18X18B
designator U?
Description not found; FPGAVendor: Lattice; Published: 14-Mar-2007; Publisher: Altium Limited
pins: A0 (in), A1 (in), A2 (in), A3 (in), A4 (in), A5 (in), A6 (in), A7 (in), A8 (in), A9 (in), A10 (in), A11 (in), A12 (in), A13 (in), A14 (in), A15 (in), A16 (in), A17 (in), B0 (in), B1 (in), B2 (in), B3 (in), B4 (in), B5 (in), B6 (in), B7 (in), B8 (in), B9 (in), B10 (in), B11 (in), B12 (in), B13 (in), B14 (in), B15 (in), B16 (in), B17 (in), CE0 (in), CE1 (in), CE2 (in), CE3 (in), CLK0 (in), CLK1 (in), CLK2 (in), CLK3 (in), P0 (out), P1 (out), P2 (out), P3 (out), P4 (out), P5 (out), P6 (out), P7 (out), P8 (out), P9 (out), P10 (out), P11 (out), P12 (out), P13 (out), P14 (out), P15 (out), P16 (out), P17 (out), P18 (out), P19 (out), P20 (out), P21 (out), P22 (out), P23 (out), P24 (out), P25 (out), P26 (out), P27 (out), P28 (out), P29 (out), P30 (out), P31 (out), P32 (out), P33 (out), P34 (out), P35 (out), RST0 (in), RST1 (in), RST2 (in), RST3 (in), SIGNEDA (in), SIGNEDB (in), SOURCEA (in), SOURCEA (in), SRIA0 (in), SRIA1 (in), SRIA2 (in), SRIA3 (in), SRIA4 (in), SRIA5 (in), SRIA6 (in), SRIA7 (in), SRIA8 (in), SRIA9 (in), SRIA10 (in), SRIA11 (in), SRIA12 (in), SRIA13 (in), SRIA14 (in), SRIA15 (in), SRIA16 (in), SRIA17 (in), SRIB0 (in), SRIB1 (in), SRIB2 (in), SRIB3 (in), SRIB4 (in), SRIB5 (in), SRIB6 (in), SRIB7 (in), SRIB8 (in), SRIB9 (in), SRIB10 (in), SRIB11 (in), SRIB12 (in), SRIB13 (in), SRIB14 (in), SRIB15 (in), SRIB16 (in), SRIB17 (in), SROA0 (out), SROA1 (out), SROA2 (out), SROA3 (out), SROA4 (out), SROA5 (out), SROA6 (out), SROA7 (out), SROA8 (out), SROA9 (out), SROA10 (out), SROA11 (out), SROA12 (out), SROA13 (out), SROA14 (out), SROA15 (out), SROA16 (out), SROA17 (out), SROB0 (out), SROB1 (out), SROB2 (out), SROB3 (out), SROB4 (out), SROB5 (out), SROB6 (out), SROB7 (out), SROB8 (out), SROB9 (out), SROB10 (out), SROB11 (out), SROB12 (out), SROB13 (out), SROB14 (out), SROB15 (out), SROB16 (out), SROB17 (out)

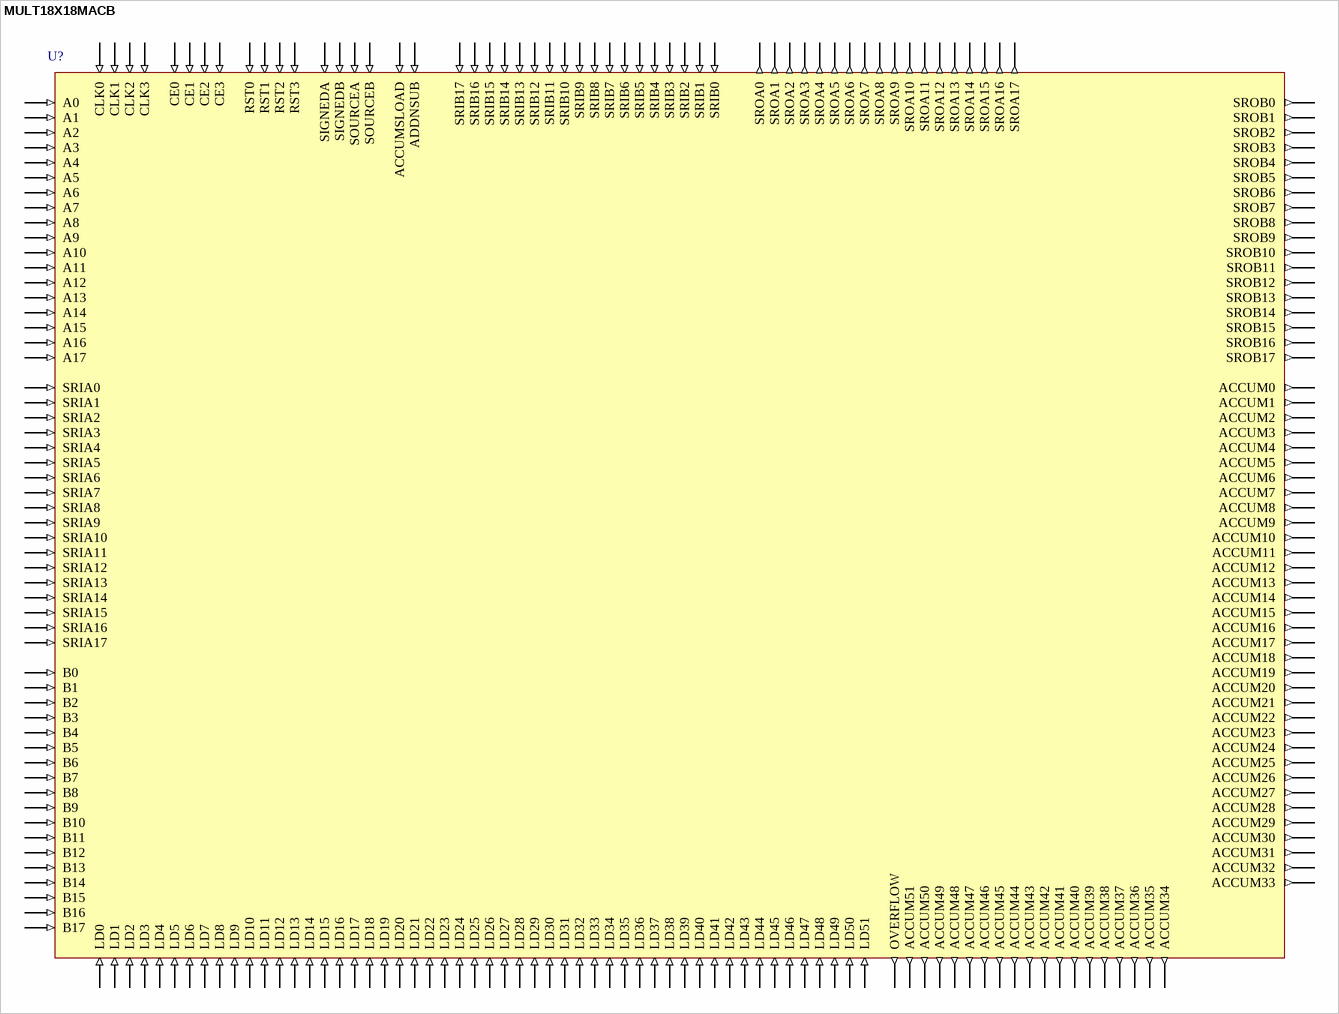
[diagram p8: symbol MULT18X18MACB]

## MULT18X18MACB
designator U?
Description not found; FPGAVendor: Lattice; Published: 14-Mar-2007; Publisher: Altium Limited
pins: A0 (in), A1 (in), A2 (in), A3 (in), A4 (in), A5 (in), A6 (in), A7 (in), A8 (in), A9 (in), A10 (in), A11 (in), A12 (in), A13 (in), A14 (in), A15 (in), A16 (in), A17 (in), ACCUM0 (out), ACCUM1 (out), ACCUM2 (out), ACCUM3 (out), ACCUM4 (out), ACCUM5 (out), ACCUM6 (out), ACCUM7 (out), ACCUM8 (out), ACCUM9 (out), ACCUM10 (out), ACCUM11 (out), ACCUM12 (out), ACCUM13 (out), ACCUM14 (out), ACCUM15 (out), ACCUM16 (out), ACCUM17 (out), ACCUM18 (out), ACCUM19 (out), ACCUM20 (out), ACCUM21 (out), ACCUM22 (out), ACCUM23 (out), ACCUM24 (out), ACCUM25 (out), ACCUM26 (out), ACCUM27 (out), ACCUM28 (out), ACCUM29 (out), ACCUM30 (out), ACCUM31 (out), ACCUM32 (out), ACCUM33 (out), ACCUM34 (out), ACCUM35 (out), ACCUM36 (out), ACCUM37 (out), ACCUM38 (out), ACCUM39 (out), ACCUM40 (out), ACCUM41 (out), ACCUM42 (out), ACCUM43 (out), ACCUM44 (out), ACCUM45 (out), ACCUM46 (out), ACCUM47 (out), ACCUM48 (out), ACCUM49 (out), ACCUM50 (out), ACCUM51 (out), ACCUMSLOAD (in), ADDNSUB (in), B0 (in), B1 (in), B2 (in), B3 (in), B4 (in), B5 (in), B6 (in), B7 (in), B8 (in), B9 (in), B10 (in), B11 (in), B12 (in), B13 (in), B14 (in), B15 (in), B16 (in), B17 (in), CE0 (in), CE1 (in), CE2 (in), CE3 (in), CLK0 (in), CLK1 (in), CLK2 (in), CLK3 (in), LD0 (in), LD1 (in), LD2 (in), LD3 (in), LD4 (in), LD5 (in), LD6 (in), LD7 (in), LD8 (in), LD9 (in), LD10 (in), LD11 (in), LD12 (in), LD13 (in), LD14 (in), LD15 (in), LD16 (in), LD17 (in), LD18 (in), LD19 (in), LD20 (in), LD21 (in), LD22 (in), LD23 (in), LD24 (in), LD25 (in), LD26 (in), LD27 (in), LD28 (in), LD29 (in), LD30 (in), LD31 (in), LD32 (in), LD33 (in), LD34 (in), LD35 (in), LD36 (in), LD37 (in), LD38 (in), LD39 (in), LD40 (in), LD41 (in), LD42 (in), LD43 (in), LD44 (in), LD45 (in), LD46 (in), LD47 (in), LD48 (in), LD49 (in), LD50 (in), LD51 (in), OVERFLOW (out), RST0 (in), RST1 (in), RST2 (in), RST3 (in), SIGNEDA (in), SIGNEDB (in), SOURCEA (in), SOURCEB (in), SRIA0 (in), SRIA1 (in), SRIA2 (in), SRIA3 (in), SRIA4 (in), SRIA5 (in), SRIA6 (in), SRIA7 (in), SRIA8 (in), SRIA9 (in), SRIA10 (in), SRIA11 (in), SRIA12 (in), SRIA13 (in), SRIA14 (in), SRIA15 (in), SRIA16 (in), SRIA17 (in), SRIB0 (in), SRIB1 (in), SRIB2 (in), SRIB3 (in), SRIB4 (in), SRIB5 (in), SRIB6 (in), SRIB7 (in), SRIB8 (in), SRIB9 (in), SRIB10 (in), SRIB11 (in), SRIB12 (in), SRIB13 (in), SRIB14 (in), SRIB15 (in), SRIB16 (in), SRIB17 (in), SROA0 (out), SROA1 (out), SROA2 (out), SROA3 (out), SROA4 (out), SROA5 (out), SROA6 (out), SROA7 (out), SROA8 (out), SROA9 (out), SROA10 (out), SROA11 (out), SROA12 (out), SROA13 (out), SROA14 (out), SROA15 (out), SROA16 (out), SROA17 (out), SROB0 (out), SROB1 (out), SROB2 (out), SROB3 (out), SROB4 (out), SROB5 (out), SROB6 (out), SROB7 (out), SROB8 (out), SROB9 (out), SROB10 (out), SROB11 (out), SROB12 (out), SROB13 (out), SROB14 (out), SROB15 (out), SROB16 (out), SROB17 (out)

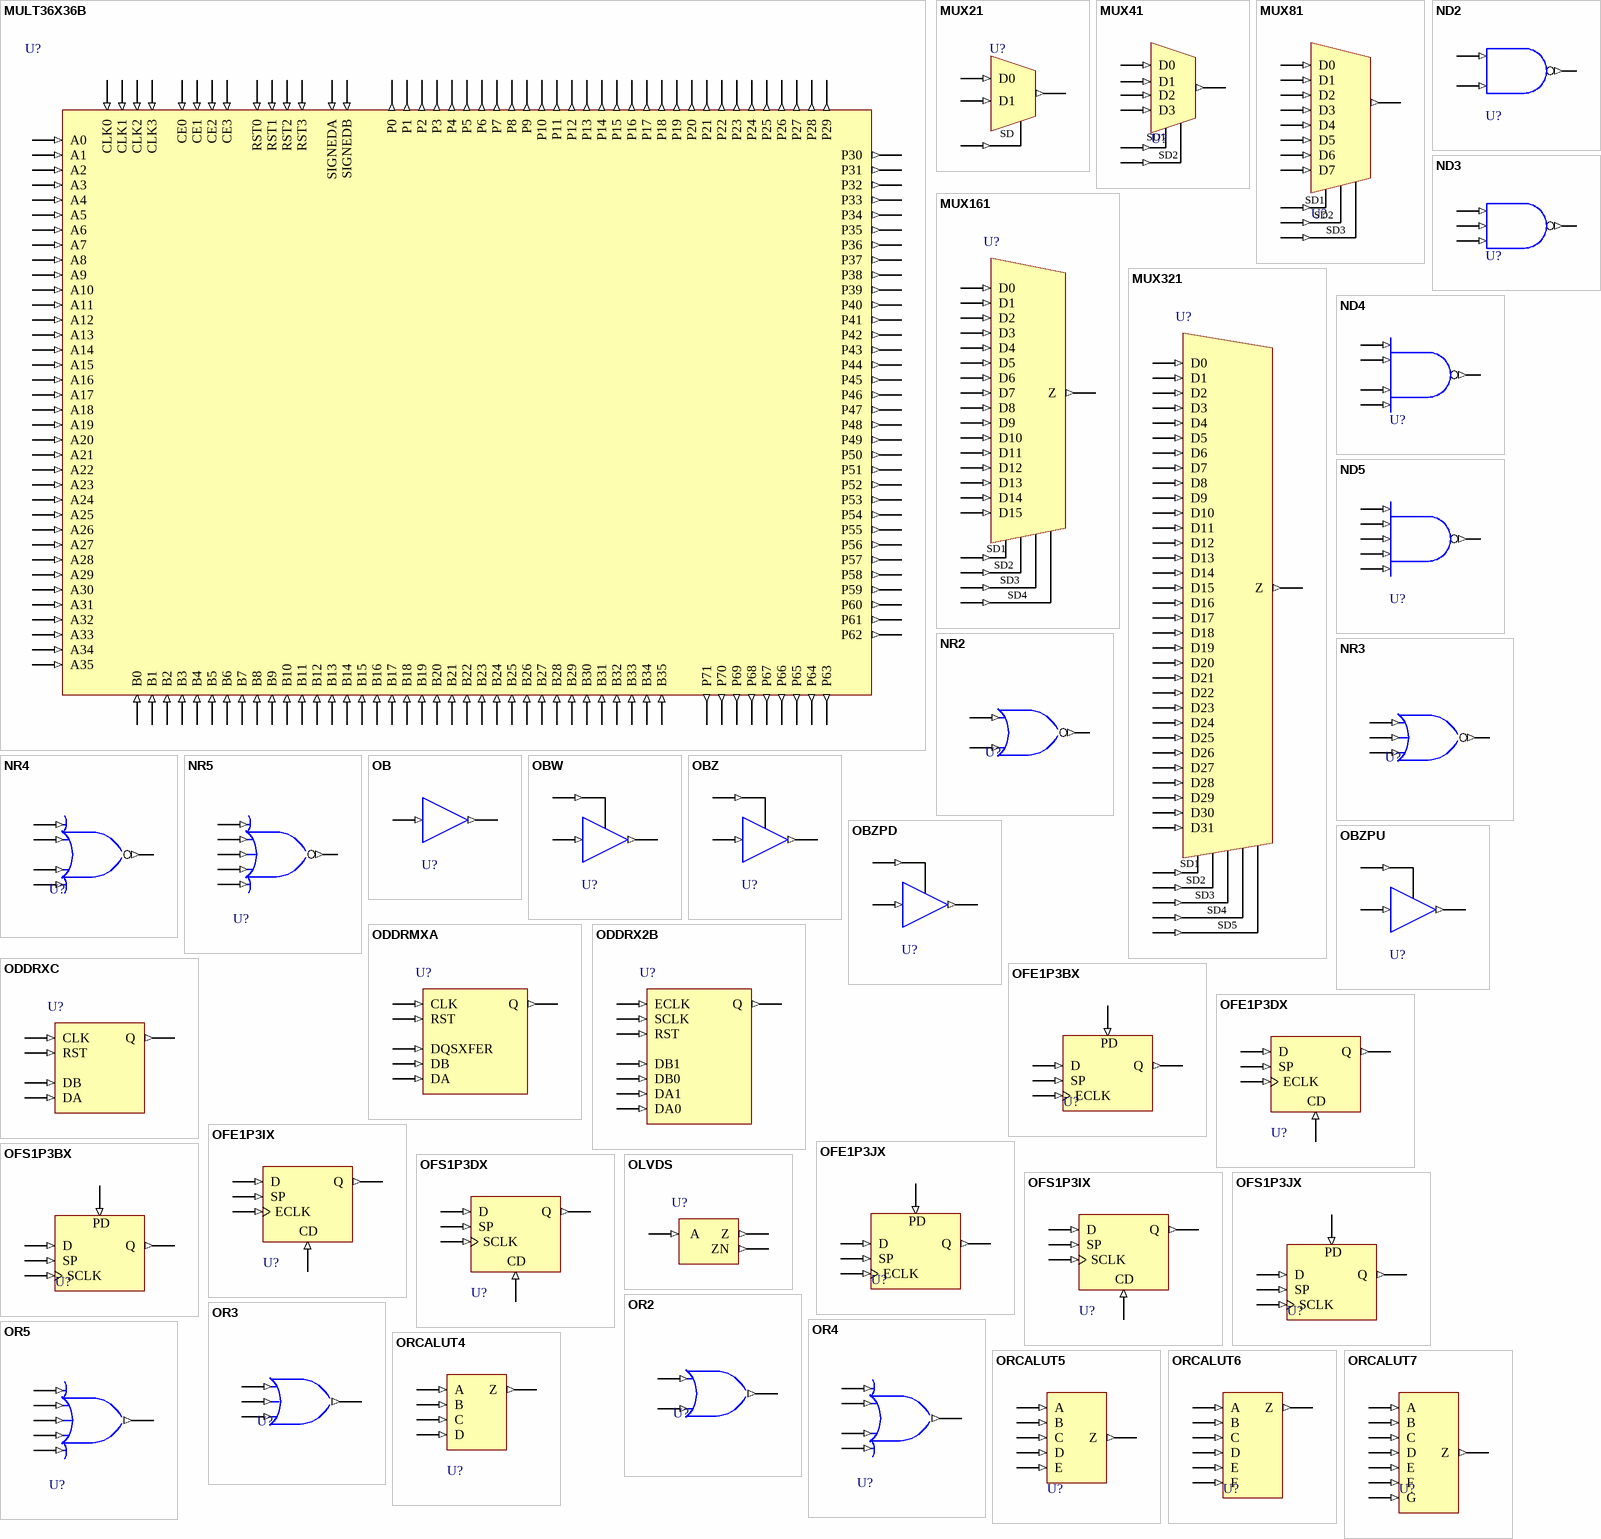
[diagram p9: symbols MULT36X36B to ORCALUT7]

## MULT36X36B
designator U?
Description not found; FPGAVendor: Lattice; Published: 14-Mar-2007; Publisher: Altium Limited
pins: A0 (in), A1 (in), A2 (in), A3 (in), A4 (in), A5 (in), A6 (in), A7 (in), A8 (in), A9 (in), A10 (in), A11 (in), A12 (in), A13 (in), A14 (in), A15 (in), A16 (in), A17 (in), A18 (in), A19 (in), A20 (in), A21 (in), A22 (in), A23 (in), A24 (in), A25 (in), A26 (in), A27 (in), A28 (in), A29 (in), A30 (in), A31 (in), A32 (in), A33 (in), A34 (in), A35 (in), B0 (in), B1 (in), B2 (in), B3 (in), B4 (in), B5 (in), B6 (in), B7 (in), B8 (in), B9 (in), B10 (in), B11 (in), B12 (in), B13 (in), B14 (in), B15 (in), B16 (in), B17 (in), B18 (in), B19 (in), B20 (in), B21 (in), B22 (in), B23 (in), B24 (in), B25 (in), B26 (in), B27 (in), B28 (in), B29 (in), B30 (in), B31 (in), B32 (in), B33 (in), B34 (in), B35 (in), CE0 (in), CE1 (in), CE2 (in), CE3 (in), CLK0 (in), CLK1 (in), CLK2 (in), CLK3 (in), P0 (out), P1 (out), P2 (out), P3 (out), P4 (out), P5 (out), P6 (out), P7 (out), P8 (out), P9 (out), P10 (out), P11 (out), P12 (out), P13 (out), P14 (out), P15 (out), P16 (out), P17 (out), P18 (out), P19 (out), P20 (out), P21 (out), P22 (out), P23 (out), P24 (out), P25 (out), P26 (out), P27 (out), P28 (out), P29 (out), P30 (out), P31 (out), P32 (out), P33 (out), P34 (out), P35 (out), P36 (out), P37 (out), P38 (out), P39 (out), P40 (out), P41 (out), P42 (out), P43 (out), P44 (out), P45 (out), P46 (out), P47 (out), P48 (out), P49 (out), P50 (out), P51 (out), P52 (out), P53 (out), P54 (out), P55 (out), P56 (out), P57 (out), P58 (out), P59 (out), P60 (out), P61 (out), P62 (out), P63 (out), P64 (out), P65 (out), P66 (out), P67 (out), P68 (out), P69 (out), P70 (out), P71 (out), RST0 (in), RST1 (in), RST2 (in), RST3 (in), SIGNEDA (in), SIGNEDB (in)

## MUX21
designator U?
2 to 1 Mux; FPGAVendor: Lattice; Published: 15-Jun-2005; Publisher: Altium Limited; HelpURL: http://www.latticesemi.com/lit/docs/manuals/library.pdf
pins: D0 (in), D1 (in), SD (in), Z (out)

## MUX41
designator U?
4 to 1 Mux; FPGAVendor: Lattice; Published: 15-Jun-2005; Publisher: Altium Limited; HelpURL: http://www.latticesemi.com/lit/docs/manuals/library.pdf
pins: D0 (in), D1 (in), D2 (in), D3 (in), SD1 (in), SD2 (in), Z (out)

## MUX81
designator U?
8 to 1 Mux; FPGAVendor: Lattice; Published: 15-Jun-2005; Publisher: Altium Limited; HelpURL: http://www.latticesemi.com/lit/docs/manuals/library.pdf
pins: D0 (in), D1 (in), D2 (in), D3 (in), D4 (in), D5 (in), D6 (in), D7 (in), SD1 (in), SD2 (in), SD3 (in), Z (out)

## MUX161
designator U?
16 to 1 Mux in PFU; FPGAVendor: Lattice; Published: 15-Jun-2005; Publisher: Altium Limited; HelpURL: http://www.latticesemi.com/lit/docs/manuals/library.pdf
pins: D0 (in), D1 (in), D2 (in), D3 (in), D4 (in), D5 (in), D6 (in), D7 (in), D8 (in), D9 (in), D10 (in), D11 (in), D12 (in), D13 (in), D14 (in), D15 (in), SD1 (in), SD2 (in), SD3 (in), SD4 (in), Z (out)

## MUX321
designator U?
32 to 1 Mux; FPGAVendor: Lattice; Published: 15-Jun-2005; Publisher: Altium Limited; HelpURL: http://www.latticesemi.com/lit/docs/manuals/library.pdf
pins: D0 (in), D1 (in), D2 (in), D3 (in), D4 (in), D5 (in), D6 (in), D7 (in), D8 (in), D9 (in), D10 (in), D11 (in), D12 (in), D13 (in), D14 (in), D15 (in), D16 (in), D17 (in), D18 (in), D19 (in), D20 (in), D21 (in), D22 (in), D23 (in), D24 (in), D25 (in), D26 (in), D27 (in), D28 (in), D29 (in), D30 (in), D31 (in), SD1 (in), SD2 (in), SD3 (in), SD4 (in), SD5 (in), Z (out)

## ND2
designator U?
2 Input NAND Gate; FPGAVendor: Lattice; Published: 15-Jun-2005; Publisher: Altium Limited; HelpURL: http://www.latticesemi.com/lit/docs/manuals/library.pdf
pins: A (in), B (in), Z (out)

## ND3
designator U?
3 Input NAND Gate; FPGAVendor: Lattice; Published: 15-Jun-2005; Publisher: Altium Limited; HelpURL: http://www.latticesemi.com/lit/docs/manuals/library.pdf
pins: A (in), B (in), C (in), Z (out)

## ND4
designator U?
4 Input NAND Gate; FPGAVendor: Lattice; Published: 15-Jun-2005; Publisher: Altium Limited; HelpURL: http://www.latticesemi.com/lit/docs/manuals/library.pdf
pins: A (in), B (in), C (in), D (in), Z (out)

## ND5
designator U?
5 Input NAND Gate; FPGAVendor: Lattice; Published: 15-Jun-2005; Publisher: Altium Limited; HelpURL: http://www.latticesemi.com/lit/docs/manuals/library.pdf
pins: A (in), B (in), C (in), D (in), E (in), Z (out)

## NR2
designator U?
2 Input NOR Gate; FPGAVendor: Lattice; Published: 15-Jun-2005; Publisher: Altium Limited; HelpURL: http://www.latticesemi.com/lit/docs/manuals/library.pdf
pins: A (in), B (in), Z (out)

## NR3
designator U?
3 Input NOR Gate; FPGAVendor: Lattice; Published: 15-Jun-2005; Publisher: Altium Limited; HelpURL: http://www.latticesemi.com/lit/docs/manuals/library.pdf
pins: A (in), B (in), C (in), Z (out)

## NR4
designator U?
4 Input NOR Gate; FPGAVendor: Lattice; Published: 15-Jun-2005; Publisher: Altium Limited; HelpURL: http://www.latticesemi.com/lit/docs/manuals/library.pdf
pins: A (in), B (in), C (in), D (in), Z (out)

## NR5
designator U?
5 Input NOR Gate; FPGAVendor: Lattice; Published: 15-Jun-2005; Publisher: Altium Limited; HelpURL: http://www.latticesemi.com/lit/docs/manuals/library.pdf
pins: A (in), B (in), C (in), D (in), E (in), Z (out)

## OB
designator U?
Output Buffer; FPGAVendor: Lattice; Published: 15-Jun-2005; Publisher: Altium Limited; HelpURL: http://www.latticesemi.com/lit/docs/manuals/library.pdf
pins: I (in), O (out)

## OBW
designator U?
6mA Sink 3mA Source Sinklim Output Buffer with Tristate; FPGAVendor: Lattice; Published: 15-Jun-2005; Publisher: Altium Limited; HelpURL: http://www.latticesemi.com/lit/docs/manuals/library.pdf
pins: I (in), O (out), T (in)

## OBZ
designator U?
6mA Sink 3mA Source Sinklim Output Buffer; FPGAVendor: Lattice; Published: 15-Jun-2005; Publisher: Altium Limited; HelpURL: http://www.latticesemi.com/lit/docs/manuals/library.pdf
pins: I (in), O (out), T (in)

## OBZPD
designator U?
12mA Sink 6mA Source Slewlim Output Buffer; FPGAVendor: Lattice; Published: 15-Jun-2005; Publisher: Altium Limited; HelpURL: http://www.latticesemi.com/lit/docs/manuals/library.pdf
pins: I (in), O (out), T (in)

## OBZPU
designator U?
12mA Sink 6mA Source Fast Output Buffer; FPGAVendor: Lattice; Published: 15-Jun-2005; Publisher: Altium Limited; HelpURL: http://www.latticesemi.com/lit/docs/manuals/library.pdf
pins: I (in), O (out), T (in)

## ODDRMXA
designator U?
Description not found; FPGAVendor: Lattice; Published: 14-Mar-2007; Publisher: Altium Limited
pins: CLK (in), DA (in), DB (in), DQSXFER (in), Q (out), RST (in)

## ODDRX2B
designator U?
Description not found; FPGAVendor: Lattice; Published: 14-Mar-2007; Publisher: Altium Limited
pins: DA0 (in), DA1 (in), DB0 (in), DB1 (in), ECLK (in), Q (out), RST (in), SCLK (in)

## ODDRXC
designator U?
Description not found; FPGAVendor: Lattice; Published: 14-Mar-2007; Publisher: Altium Limited
pins: CLK (in), DA (in), DB (in), Q (out), RST (in)

## OFE1P3BX
designator U?
Positive Edge Triggered D Flip-Flop with Positive Level Enable, Positive Level Asynchronous Preset, and Express Clock (used in output PIC area only); FPGAVendor: Lattice; Published: 15-Jun-2005; Publisher: Altium Limited; HelpURL: http://www.latticesemi.com/lit/docs/manuals/library.pdf
pins: D (in), ECLK (in), PD (in), Q (out), SP (in)

## OFE1P3DX
designator U?
Positive Edge Triggered D Flip-Flop with Positive Level Enable, Positive Level Asynchronous Clear, and Express Clock (used in output PIC area only); FPGAVendor: Lattice; Published: 15-Jun-2005; Publisher: Altium Limited; HelpURL: http://www.latticesemi.com/lit/docs/manuals/library.pdf
pins: CD (in), D (in), ECLK (in), Q (out), SP (in)

## OFE1P3IX
designator U?
Positive Edge Triggered D Flip-Flop with Positive Level Synchronous Clear, Positive Level Enable (Clear overrides Enable), and Express Clock (used in output PIC area only); FPGAVendor: Lattice; Published: 15-Jun-2005; Publisher: Altium Limited; HelpURL: http://www.latticesemi.com/lit/docs/manuals/library.pdf
pins: CD (in), D (in), ECLK (in), Q (out), SP (in)

## OFE1P3JX
designator U?
Positive Edge Triggered D Flip-Flop with Positive Level Synchronous Preset, Positive Level Enable (Preset overrides Enable), and Express Clock (used in output PIC area only); FPGAVendor: Lattice; Published: 15-Jun-2005; Publisher: Altium Limited; HelpURL: http://www.latticesemi.com/lit/docs/manuals/library.pdf
pins: D (in), ECLK (in), PD (in), Q (out), SP (in)

## OFS1P3BX
designator U?
Positive Edge Triggered D Flip-Flop with Positive Level Enable, Positive Level Asynchronous Preset, and System Clock (used in output PIC area only); FPGAVendor: Lattice; Published: 15-Jun-2005; Publisher: Altium Limited; HelpURL: http://www.latticesemi.com/lit/docs/manuals/library.pdf
pins: D (in), PD (in), Q (out), SCLK (in), SP (in)

## OFS1P3DX
designator U?
Positive Edge Triggered D Flip-Flop with Positive Level Enable, Positive Level Asynchronous Clear, and System Clock (used in output PIC area only); FPGAVendor: Lattice; Published: 15-Jun-2005; Publisher: Altium Limited; HelpURL: http://www.latticesemi.com/lit/docs/manuals/library.pdf
pins: CD (in), D (in), Q (out), SCLK (in), SP (in)

## OFS1P3IX
designator U?
Positive Edge Triggered D Flip-Flop with Positive Level Synchronous Clear, Positive Level Enable (Clear overrides Enable), and System Clock (used in output PIC area only); FPGAVendor: Lattice; Published: 15-Jun-2005; Publisher: Altium Limited; HelpURL: http://www.latticesemi.com/lit/docs/manuals/library.pdf
pins: CD (in), D (in), Q (out), SCLK (in), SP (in)

## OFS1P3JX
designator U?
Positive Edge Triggered D Flip-Flop with Positive Level Synchronous Preset, Positive Level Enable (Preset overrides Enable), and System Clock (used in output PIC area only); FPGAVendor: Lattice; Published: 15-Jun-2005; Publisher: Altium Limited; HelpURL: http://www.latticesemi.com/lit/docs/manuals/library.pdf
pins: D (in), PD (in), Q (out), SCLK (in), SP (in)